# Altium integrated library ST Memory EPROM 1-16 Mbit.IntLib: 1093 symbols (part 14 of 19)
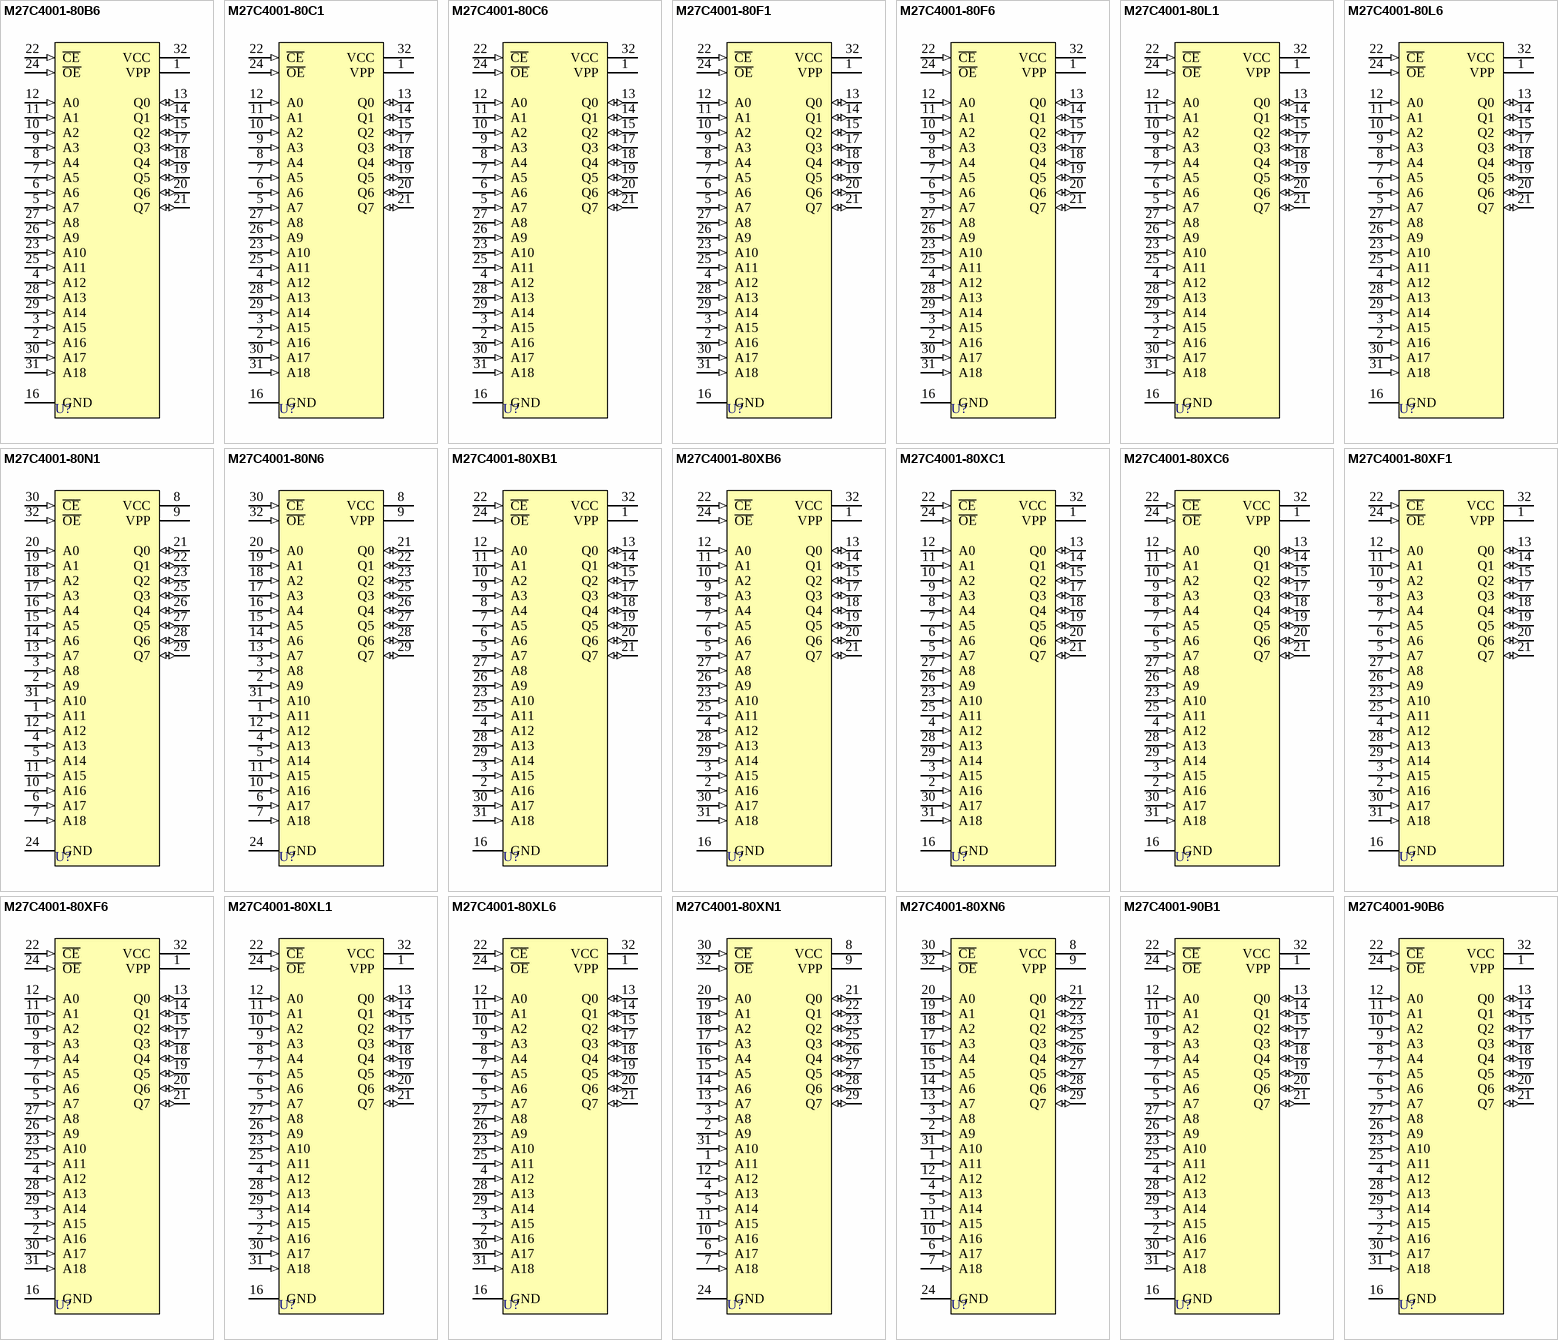
[diagram p70: symbols M27C4001-80B6 to M27C4001-90B6]

## M27C4001-80XF1
designator U?
4 Mbit (512Kb x 8) UV EPROM and OTP EPROM; Published: 24-Aug-2001; LatestRevisionDate: 17-Jul-2002; LatestRevisionNote: Re-released for DXP Platform.; DatasheetDocument: Jul-1998; PackageReference: FDIP32W; Publisher: Altium Limited
footprint FDIP32W (Ceramic Frit-seal DIP, Window; 32 Leads; Row Spacing 15.24 mm; Pitch 2.54 mm)
pins: 1 VPP (power), 2 A16 (in), 3 A15 (in), 4 A12 (in), 5 A7 (in), 6 A6 (in), 7 A5 (in), 8 A4 (in), 9 A3 (in), 10 A2 (in), 11 A1 (in), 12 A0 (in), 13 Q0 (io), 14 Q1 (io), 15 Q2 (io), 16 GND (power), 17 Q3 (io), 18 Q4 (io), 19 Q5 (io), 20 Q6 (io), 21 Q7 (io), 22 ~{CE} (in), 23 A10 (in), 24 ~{OE} (in), 25 A11 (in), 26 A9 (in), 27 A8 (in), 28 A13 (in), 29 A14 (in), 30 A17 (in), 31 A18 (in), 32 VCC (power)

## M27C4001-80XF6
designator U?
4 Mbit (512Kb x 8) UV EPROM and OTP EPROM; Published: 24-Aug-2001; LatestRevisionDate: 17-Jul-2002; LatestRevisionNote: Re-released for DXP Platform.; DatasheetDocument: Jul-1998; PackageReference: FDIP32W; Publisher: Altium Limited
footprint FDIP32W (Ceramic Frit-seal DIP, Window; 32 Leads; Row Spacing 15.24 mm; Pitch 2.54 mm)
pins: 1 VPP (power), 2 A16 (in), 3 A15 (in), 4 A12 (in), 5 A7 (in), 6 A6 (in), 7 A5 (in), 8 A4 (in), 9 A3 (in), 10 A2 (in), 11 A1 (in), 12 A0 (in), 13 Q0 (io), 14 Q1 (io), 15 Q2 (io), 16 GND (power), 17 Q3 (io), 18 Q4 (io), 19 Q5 (io), 20 Q6 (io), 21 Q7 (io), 22 ~{CE} (in), 23 A10 (in), 24 ~{OE} (in), 25 A11 (in), 26 A9 (in), 27 A8 (in), 28 A13 (in), 29 A14 (in), 30 A17 (in), 31 A18 (in), 32 VCC (power)

## M27C4001-80XL1
designator U?
4 Mbit (512Kb x 8) UV EPROM and OTP EPROM; Published: 24-Aug-2001; LatestRevisionDate: 17-Jul-2002; LatestRevisionNote: Re-released for DXP Platform.; DatasheetDocument: Jul-1998; PackageReference: LCCC32W; Publisher: Altium Limited
footprint LCCC32W (Leadless Chip Carrier, Ceramic, Window; 32 Terminals; Body 11.4 x 14 mm)
pins: 1 VPP (power), 2 A16 (in), 3 A15 (in), 4 A12 (in), 5 A7 (in), 6 A6 (in), 7 A5 (in), 8 A4 (in), 9 A3 (in), 10 A2 (in), 11 A1 (in), 12 A0 (in), 13 Q0 (io), 14 Q1 (io), 15 Q2 (io), 16 GND (power), 17 Q3 (io), 18 Q4 (io), 19 Q5 (io), 20 Q6 (io), 21 Q7 (io), 22 ~{CE} (in), 23 A10 (in), 24 ~{OE} (in), 25 A11 (in), 26 A9 (in), 27 A8 (in), 28 A13 (in), 29 A14 (in), 30 A17 (in), 31 A18 (in), 32 VCC (power)

## M27C4001-80XL6
designator U?
4 Mbit (512Kb x 8) UV EPROM and OTP EPROM; Published: 24-Aug-2001; LatestRevisionDate: 17-Jul-2002; LatestRevisionNote: Re-released for DXP Platform.; DatasheetDocument: Jul-1998; PackageReference: LCCC32W; Publisher: Altium Limited
footprint LCCC32W (Leadless Chip Carrier, Ceramic, Window; 32 Terminals; Body 11.4 x 14 mm)
pins: 1 VPP (power), 2 A16 (in), 3 A15 (in), 4 A12 (in), 5 A7 (in), 6 A6 (in), 7 A5 (in), 8 A4 (in), 9 A3 (in), 10 A2 (in), 11 A1 (in), 12 A0 (in), 13 Q0 (io), 14 Q1 (io), 15 Q2 (io), 16 GND (power), 17 Q3 (io), 18 Q4 (io), 19 Q5 (io), 20 Q6 (io), 21 Q7 (io), 22 ~{CE} (in), 23 A10 (in), 24 ~{OE} (in), 25 A11 (in), 26 A9 (in), 27 A8 (in), 28 A13 (in), 29 A14 (in), 30 A17 (in), 31 A18 (in), 32 VCC (power)

## M27C4001-80XN1
designator U?
4 Mbit (512Kb x 8) UV EPROM and OTP EPROM; Published: 24-Aug-2001; LatestRevisionDate: 26-May-2004; LatestRevisionNote: Pad length of PCB Footprint increased.; DatasheetDocument: Jul-1998; PackageDocument: Mar-1999; PackageReference: TSOP32; Publisher: Altium Limited; Code_JEDEC: MO-142-BD
footprint TSOP32 (Shrink Small Outline, Plastic, Thin; 32 Leads; Body Width 18.4 mm; Pitch 0.5 mm)
pins: 1 A11 (in), 2 A9 (in), 3 A8 (in), 4 A13 (in), 5 A14 (in), 6 A17 (in), 7 A18 (in), 8 VCC (power), 9 VPP (power), 10 A16 (in), 11 A15 (in), 12 A12 (in), 13 A7 (in), 14 A6 (in), 15 A5 (in), 16 A4 (in), 17 A3 (in), 18 A2 (in), 19 A1 (in), 20 A0 (in), 21 Q0 (io), 22 Q1 (io), 23 Q2 (io), 24 GND (power), 25 Q3 (io), 26 Q4 (io), 27 Q5 (io), 28 Q6 (io), 29 Q7 (io), 30 ~{CE} (in), 31 A10 (in), 32 ~{OE} (in)

## M27C4001-80XN6
designator U?
4 Mbit (512Kb x 8) UV EPROM and OTP EPROM; Published: 24-Aug-2001; LatestRevisionDate: 26-May-2004; LatestRevisionNote: Pad length of PCB Footprint increased.; DatasheetDocument: Jul-1998; PackageDocument: Mar-1999; PackageReference: TSOP32; Publisher: Altium Limited; Code_JEDEC: MO-142-BD
footprint TSOP32 (Shrink Small Outline, Plastic, Thin; 32 Leads; Body Width 18.4 mm; Pitch 0.5 mm)
pins: 1 A11 (in), 2 A9 (in), 3 A8 (in), 4 A13 (in), 5 A14 (in), 6 A17 (in), 7 A18 (in), 8 VCC (power), 9 VPP (power), 10 A16 (in), 11 A15 (in), 12 A12 (in), 13 A7 (in), 14 A6 (in), 15 A5 (in), 16 A4 (in), 17 A3 (in), 18 A2 (in), 19 A1 (in), 20 A0 (in), 21 Q0 (io), 22 Q1 (io), 23 Q2 (io), 24 GND (power), 25 Q3 (io), 26 Q4 (io), 27 Q5 (io), 28 Q6 (io), 29 Q7 (io), 30 ~{CE} (in), 31 A10 (in), 32 ~{OE} (in)

## M27C4001-90B1
designator U?
4 Mbit (512Kb x 8) UV EPROM and OTP EPROM; PackageDocument: 1998; Published: 24-Aug-2001; LatestRevisionDate: 17-Jul-2002; LatestRevisionNote: Re-released for DXP Platform.; DatasheetDocument: Jul-1998; PackageReference: PDIP32; Publisher: Altium Limited
footprint PDIP32 (DIP, Plastic; 32 Leads; Row Spacing 15.24 mm; Pitch 2.54 mm)
pins: 1 VPP (power), 2 A16 (in), 3 A15 (in), 4 A12 (in), 5 A7 (in), 6 A6 (in), 7 A5 (in), 8 A4 (in), 9 A3 (in), 10 A2 (in), 11 A1 (in), 12 A0 (in), 13 Q0 (io), 14 Q1 (io), 15 Q2 (io), 16 GND (power), 17 Q3 (io), 18 Q4 (io), 19 Q5 (io), 20 Q6 (io), 21 Q7 (io), 22 ~{CE} (in), 23 A10 (in), 24 ~{OE} (in), 25 A11 (in), 26 A9 (in), 27 A8 (in), 28 A13 (in), 29 A14 (in), 30 A17 (in), 31 A18 (in), 32 VCC (power)

## M27C4001-90B6
designator U?
4 Mbit (512Kb x 8) UV EPROM and OTP EPROM; PackageDocument: 1998; Published: 24-Aug-2001; LatestRevisionDate: 17-Jul-2002; LatestRevisionNote: Re-released for DXP Platform.; DatasheetDocument: Jul-1998; PackageReference: PDIP32; Publisher: Altium Limited
footprint PDIP32 (DIP, Plastic; 32 Leads; Row Spacing 15.24 mm; Pitch 2.54 mm)
pins: 1 VPP (power), 2 A16 (in), 3 A15 (in), 4 A12 (in), 5 A7 (in), 6 A6 (in), 7 A5 (in), 8 A4 (in), 9 A3 (in), 10 A2 (in), 11 A1 (in), 12 A0 (in), 13 Q0 (io), 14 Q1 (io), 15 Q2 (io), 16 GND (power), 17 Q3 (io), 18 Q4 (io), 19 Q5 (io), 20 Q6 (io), 21 Q7 (io), 22 ~{CE} (in), 23 A10 (in), 24 ~{OE} (in), 25 A11 (in), 26 A9 (in), 27 A8 (in), 28 A13 (in), 29 A14 (in), 30 A17 (in), 31 A18 (in), 32 VCC (power)

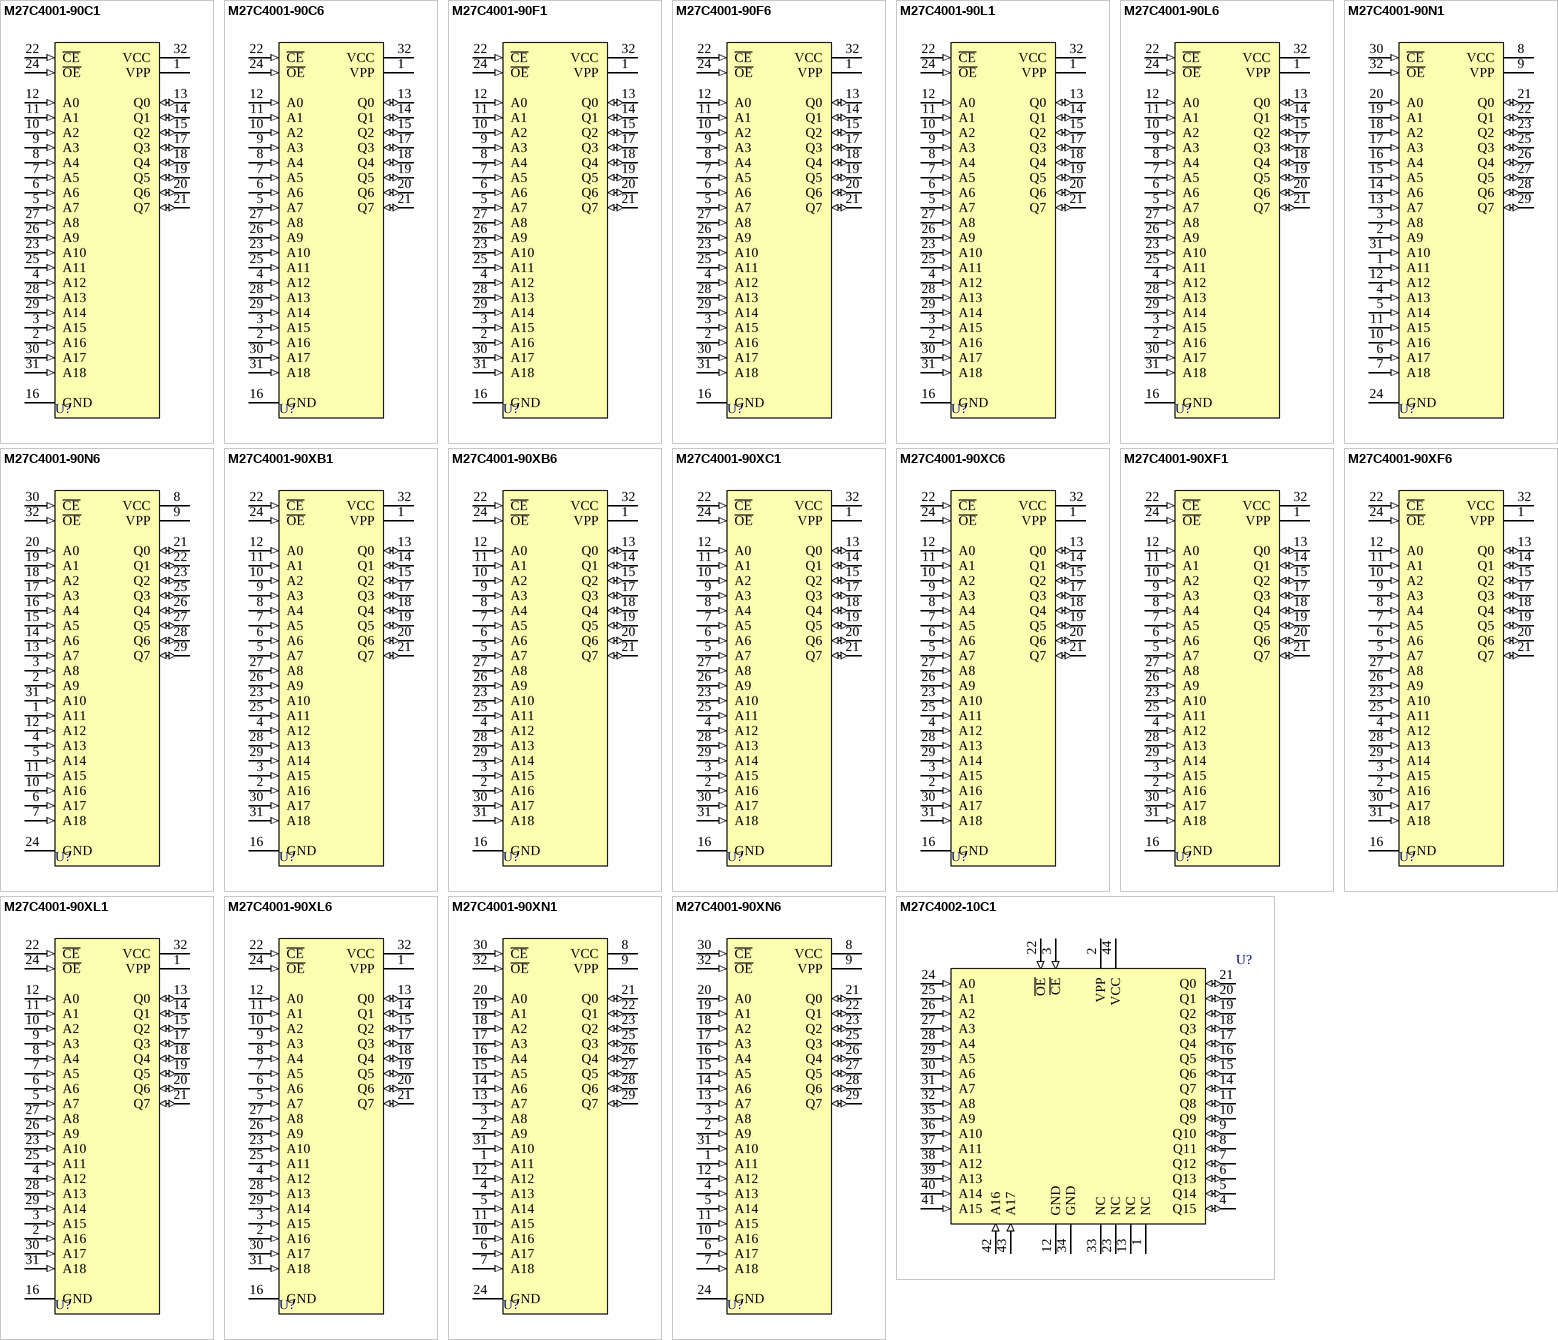
[diagram p40: symbols M27C4001-90C1 to M27C4002-10C1]

## M27C4001-90C1
designator U?
4 Mbit (512Kb x 8) UV EPROM and OTP EPROM; Published: 24-Aug-2001; LatestRevisionDate: 17-Jul-2002; LatestRevisionNote: Re-released for DXP Platform.; DatasheetDocument: Jul-1998; PackageDocument: Jun-1998; PackageReference: PLCC32; Publisher: Altium Limited; Code_JEDEC: MS-016-AE; Code_IPC: PLCC/R-32
footprint PLCC32 (Leaded Chip Carrier; 32 Leads; Body 11.4 x 14 mm)
pins: 1 VPP (power), 2 A16 (in), 3 A15 (in), 4 A12 (in), 5 A7 (in), 6 A6 (in), 7 A5 (in), 8 A4 (in), 9 A3 (in), 10 A2 (in), 11 A1 (in), 12 A0 (in), 13 Q0 (io), 14 Q1 (io), 15 Q2 (io), 16 GND (power), 17 Q3 (io), 18 Q4 (io), 19 Q5 (io), 20 Q6 (io), 21 Q7 (io), 22 ~{CE} (in), 23 A10 (in), 24 ~{OE} (in), 25 A11 (in), 26 A9 (in), 27 A8 (in), 28 A13 (in), 29 A14 (in), 30 A17 (in), 31 A18 (in), 32 VCC (power)

## M27C4001-90C6
designator U?
4 Mbit (512Kb x 8) UV EPROM and OTP EPROM; Published: 24-Aug-2001; LatestRevisionDate: 17-Jul-2002; LatestRevisionNote: Re-released for DXP Platform.; DatasheetDocument: Jul-1998; PackageDocument: Jun-1998; PackageReference: PLCC32; Publisher: Altium Limited; Code_JEDEC: MS-016-AE; Code_IPC: PLCC/R-32
footprint PLCC32 (Leaded Chip Carrier; 32 Leads; Body 11.4 x 14 mm)
pins: 1 VPP (power), 2 A16 (in), 3 A15 (in), 4 A12 (in), 5 A7 (in), 6 A6 (in), 7 A5 (in), 8 A4 (in), 9 A3 (in), 10 A2 (in), 11 A1 (in), 12 A0 (in), 13 Q0 (io), 14 Q1 (io), 15 Q2 (io), 16 GND (power), 17 Q3 (io), 18 Q4 (io), 19 Q5 (io), 20 Q6 (io), 21 Q7 (io), 22 ~{CE} (in), 23 A10 (in), 24 ~{OE} (in), 25 A11 (in), 26 A9 (in), 27 A8 (in), 28 A13 (in), 29 A14 (in), 30 A17 (in), 31 A18 (in), 32 VCC (power)

## M27C4001-90F1
designator U?
4 Mbit (512Kb x 8) UV EPROM and OTP EPROM; Published: 24-Aug-2001; LatestRevisionDate: 17-Jul-2002; LatestRevisionNote: Re-released for DXP Platform.; DatasheetDocument: Jul-1998; PackageReference: FDIP32W; Publisher: Altium Limited
footprint FDIP32W (Ceramic Frit-seal DIP, Window; 32 Leads; Row Spacing 15.24 mm; Pitch 2.54 mm)
pins: 1 VPP (power), 2 A16 (in), 3 A15 (in), 4 A12 (in), 5 A7 (in), 6 A6 (in), 7 A5 (in), 8 A4 (in), 9 A3 (in), 10 A2 (in), 11 A1 (in), 12 A0 (in), 13 Q0 (io), 14 Q1 (io), 15 Q2 (io), 16 GND (power), 17 Q3 (io), 18 Q4 (io), 19 Q5 (io), 20 Q6 (io), 21 Q7 (io), 22 ~{CE} (in), 23 A10 (in), 24 ~{OE} (in), 25 A11 (in), 26 A9 (in), 27 A8 (in), 28 A13 (in), 29 A14 (in), 30 A17 (in), 31 A18 (in), 32 VCC (power)

## M27C4001-90F6
designator U?
4 Mbit (512Kb x 8) UV EPROM and OTP EPROM; Published: 24-Aug-2001; LatestRevisionDate: 17-Jul-2002; LatestRevisionNote: Re-released for DXP Platform.; DatasheetDocument: Jul-1998; PackageReference: FDIP32W; Publisher: Altium Limited
footprint FDIP32W (Ceramic Frit-seal DIP, Window; 32 Leads; Row Spacing 15.24 mm; Pitch 2.54 mm)
pins: 1 VPP (power), 2 A16 (in), 3 A15 (in), 4 A12 (in), 5 A7 (in), 6 A6 (in), 7 A5 (in), 8 A4 (in), 9 A3 (in), 10 A2 (in), 11 A1 (in), 12 A0 (in), 13 Q0 (io), 14 Q1 (io), 15 Q2 (io), 16 GND (power), 17 Q3 (io), 18 Q4 (io), 19 Q5 (io), 20 Q6 (io), 21 Q7 (io), 22 ~{CE} (in), 23 A10 (in), 24 ~{OE} (in), 25 A11 (in), 26 A9 (in), 27 A8 (in), 28 A13 (in), 29 A14 (in), 30 A17 (in), 31 A18 (in), 32 VCC (power)

## M27C4001-90L1
designator U?
4 Mbit (512Kb x 8) UV EPROM and OTP EPROM; Published: 24-Aug-2001; LatestRevisionDate: 17-Jul-2002; LatestRevisionNote: Re-released for DXP Platform.; DatasheetDocument: Jul-1998; PackageReference: LCCC32W; Publisher: Altium Limited
footprint LCCC32W (Leadless Chip Carrier, Ceramic, Window; 32 Terminals; Body 11.4 x 14 mm)
pins: 1 VPP (power), 2 A16 (in), 3 A15 (in), 4 A12 (in), 5 A7 (in), 6 A6 (in), 7 A5 (in), 8 A4 (in), 9 A3 (in), 10 A2 (in), 11 A1 (in), 12 A0 (in), 13 Q0 (io), 14 Q1 (io), 15 Q2 (io), 16 GND (power), 17 Q3 (io), 18 Q4 (io), 19 Q5 (io), 20 Q6 (io), 21 Q7 (io), 22 ~{CE} (in), 23 A10 (in), 24 ~{OE} (in), 25 A11 (in), 26 A9 (in), 27 A8 (in), 28 A13 (in), 29 A14 (in), 30 A17 (in), 31 A18 (in), 32 VCC (power)

## M27C4001-90L6
designator U?
4 Mbit (512Kb x 8) UV EPROM and OTP EPROM; Published: 24-Aug-2001; LatestRevisionDate: 17-Jul-2002; LatestRevisionNote: Re-released for DXP Platform.; DatasheetDocument: Jul-1998; PackageReference: LCCC32W; Publisher: Altium Limited
footprint LCCC32W (Leadless Chip Carrier, Ceramic, Window; 32 Terminals; Body 11.4 x 14 mm)
pins: 1 VPP (power), 2 A16 (in), 3 A15 (in), 4 A12 (in), 5 A7 (in), 6 A6 (in), 7 A5 (in), 8 A4 (in), 9 A3 (in), 10 A2 (in), 11 A1 (in), 12 A0 (in), 13 Q0 (io), 14 Q1 (io), 15 Q2 (io), 16 GND (power), 17 Q3 (io), 18 Q4 (io), 19 Q5 (io), 20 Q6 (io), 21 Q7 (io), 22 ~{CE} (in), 23 A10 (in), 24 ~{OE} (in), 25 A11 (in), 26 A9 (in), 27 A8 (in), 28 A13 (in), 29 A14 (in), 30 A17 (in), 31 A18 (in), 32 VCC (power)

## M27C4001-90N1
designator U?
4 Mbit (512Kb x 8) UV EPROM and OTP EPROM; Published: 24-Aug-2001; LatestRevisionDate: 26-May-2004; LatestRevisionNote: Pad length of PCB Footprint increased.; DatasheetDocument: Jul-1998; PackageDocument: Mar-1999; PackageReference: TSOP32; Publisher: Altium Limited; Code_JEDEC: MO-142-BD
footprint TSOP32 (Shrink Small Outline, Plastic, Thin; 32 Leads; Body Width 18.4 mm; Pitch 0.5 mm)
pins: 1 A11 (in), 2 A9 (in), 3 A8 (in), 4 A13 (in), 5 A14 (in), 6 A17 (in), 7 A18 (in), 8 VCC (power), 9 VPP (power), 10 A16 (in), 11 A15 (in), 12 A12 (in), 13 A7 (in), 14 A6 (in), 15 A5 (in), 16 A4 (in), 17 A3 (in), 18 A2 (in), 19 A1 (in), 20 A0 (in), 21 Q0 (io), 22 Q1 (io), 23 Q2 (io), 24 GND (power), 25 Q3 (io), 26 Q4 (io), 27 Q5 (io), 28 Q6 (io), 29 Q7 (io), 30 ~{CE} (in), 31 A10 (in), 32 ~{OE} (in)

## M27C4001-90N6
designator U?
4 Mbit (512Kb x 8) UV EPROM and OTP EPROM; Published: 24-Aug-2001; LatestRevisionDate: 26-May-2004; LatestRevisionNote: Pad length of PCB Footprint increased.; DatasheetDocument: Jul-1998; PackageDocument: Mar-1999; PackageReference: TSOP32; Publisher: Altium Limited; Code_JEDEC: MO-142-BD
footprint TSOP32 (Shrink Small Outline, Plastic, Thin; 32 Leads; Body Width 18.4 mm; Pitch 0.5 mm)
pins: 1 A11 (in), 2 A9 (in), 3 A8 (in), 4 A13 (in), 5 A14 (in), 6 A17 (in), 7 A18 (in), 8 VCC (power), 9 VPP (power), 10 A16 (in), 11 A15 (in), 12 A12 (in), 13 A7 (in), 14 A6 (in), 15 A5 (in), 16 A4 (in), 17 A3 (in), 18 A2 (in), 19 A1 (in), 20 A0 (in), 21 Q0 (io), 22 Q1 (io), 23 Q2 (io), 24 GND (power), 25 Q3 (io), 26 Q4 (io), 27 Q5 (io), 28 Q6 (io), 29 Q7 (io), 30 ~{CE} (in), 31 A10 (in), 32 ~{OE} (in)

## M27C4001-90XB1
designator U?
4 Mbit (512Kb x 8) UV EPROM and OTP EPROM; PackageDocument: 1998; Published: 24-Aug-2001; LatestRevisionDate: 17-Jul-2002; LatestRevisionNote: Re-released for DXP Platform.; DatasheetDocument: Jul-1998; PackageReference: PDIP32; Publisher: Altium Limited
footprint PDIP32 (DIP, Plastic; 32 Leads; Row Spacing 15.24 mm; Pitch 2.54 mm)
pins: 1 VPP (power), 2 A16 (in), 3 A15 (in), 4 A12 (in), 5 A7 (in), 6 A6 (in), 7 A5 (in), 8 A4 (in), 9 A3 (in), 10 A2 (in), 11 A1 (in), 12 A0 (in), 13 Q0 (io), 14 Q1 (io), 15 Q2 (io), 16 GND (power), 17 Q3 (io), 18 Q4 (io), 19 Q5 (io), 20 Q6 (io), 21 Q7 (io), 22 ~{CE} (in), 23 A10 (in), 24 ~{OE} (in), 25 A11 (in), 26 A9 (in), 27 A8 (in), 28 A13 (in), 29 A14 (in), 30 A17 (in), 31 A18 (in), 32 VCC (power)

## M27C4001-90XB6
designator U?
4 Mbit (512Kb x 8) UV EPROM and OTP EPROM; PackageDocument: 1998; Published: 24-Aug-2001; LatestRevisionDate: 17-Jul-2002; LatestRevisionNote: Re-released for DXP Platform.; DatasheetDocument: Jul-1998; PackageReference: PDIP32; Publisher: Altium Limited
footprint PDIP32 (DIP, Plastic; 32 Leads; Row Spacing 15.24 mm; Pitch 2.54 mm)
pins: 1 VPP (power), 2 A16 (in), 3 A15 (in), 4 A12 (in), 5 A7 (in), 6 A6 (in), 7 A5 (in), 8 A4 (in), 9 A3 (in), 10 A2 (in), 11 A1 (in), 12 A0 (in), 13 Q0 (io), 14 Q1 (io), 15 Q2 (io), 16 GND (power), 17 Q3 (io), 18 Q4 (io), 19 Q5 (io), 20 Q6 (io), 21 Q7 (io), 22 ~{CE} (in), 23 A10 (in), 24 ~{OE} (in), 25 A11 (in), 26 A9 (in), 27 A8 (in), 28 A13 (in), 29 A14 (in), 30 A17 (in), 31 A18 (in), 32 VCC (power)

## M27C4001-90XC1
designator U?
4 Mbit (512Kb x 8) UV EPROM and OTP EPROM; Published: 24-Aug-2001; LatestRevisionDate: 17-Jul-2002; LatestRevisionNote: Re-released for DXP Platform.; DatasheetDocument: Jul-1998; PackageDocument: Jun-1998; PackageReference: PLCC32; Publisher: Altium Limited; Code_JEDEC: MS-016-AE; Code_IPC: PLCC/R-32
footprint PLCC32 (Leaded Chip Carrier; 32 Leads; Body 11.4 x 14 mm)
pins: 1 VPP (power), 2 A16 (in), 3 A15 (in), 4 A12 (in), 5 A7 (in), 6 A6 (in), 7 A5 (in), 8 A4 (in), 9 A3 (in), 10 A2 (in), 11 A1 (in), 12 A0 (in), 13 Q0 (io), 14 Q1 (io), 15 Q2 (io), 16 GND (power), 17 Q3 (io), 18 Q4 (io), 19 Q5 (io), 20 Q6 (io), 21 Q7 (io), 22 ~{CE} (in), 23 A10 (in), 24 ~{OE} (in), 25 A11 (in), 26 A9 (in), 27 A8 (in), 28 A13 (in), 29 A14 (in), 30 A17 (in), 31 A18 (in), 32 VCC (power)

## M27C4001-90XC6
designator U?
4 Mbit (512Kb x 8) UV EPROM and OTP EPROM; Published: 24-Aug-2001; LatestRevisionDate: 17-Jul-2002; LatestRevisionNote: Re-released for DXP Platform.; DatasheetDocument: Jul-1998; PackageDocument: Jun-1998; PackageReference: PLCC32; Publisher: Altium Limited; Code_JEDEC: MS-016-AE; Code_IPC: PLCC/R-32
footprint PLCC32 (Leaded Chip Carrier; 32 Leads; Body 11.4 x 14 mm)
pins: 1 VPP (power), 2 A16 (in), 3 A15 (in), 4 A12 (in), 5 A7 (in), 6 A6 (in), 7 A5 (in), 8 A4 (in), 9 A3 (in), 10 A2 (in), 11 A1 (in), 12 A0 (in), 13 Q0 (io), 14 Q1 (io), 15 Q2 (io), 16 GND (power), 17 Q3 (io), 18 Q4 (io), 19 Q5 (io), 20 Q6 (io), 21 Q7 (io), 22 ~{CE} (in), 23 A10 (in), 24 ~{OE} (in), 25 A11 (in), 26 A9 (in), 27 A8 (in), 28 A13 (in), 29 A14 (in), 30 A17 (in), 31 A18 (in), 32 VCC (power)

## M27C4001-90XF1
designator U?
4 Mbit (512Kb x 8) UV EPROM and OTP EPROM; Published: 24-Aug-2001; LatestRevisionDate: 17-Jul-2002; LatestRevisionNote: Re-released for DXP Platform.; DatasheetDocument: Jul-1998; PackageReference: FDIP32W; Publisher: Altium Limited
footprint FDIP32W (Ceramic Frit-seal DIP, Window; 32 Leads; Row Spacing 15.24 mm; Pitch 2.54 mm)
pins: 1 VPP (power), 2 A16 (in), 3 A15 (in), 4 A12 (in), 5 A7 (in), 6 A6 (in), 7 A5 (in), 8 A4 (in), 9 A3 (in), 10 A2 (in), 11 A1 (in), 12 A0 (in), 13 Q0 (io), 14 Q1 (io), 15 Q2 (io), 16 GND (power), 17 Q3 (io), 18 Q4 (io), 19 Q5 (io), 20 Q6 (io), 21 Q7 (io), 22 ~{CE} (in), 23 A10 (in), 24 ~{OE} (in), 25 A11 (in), 26 A9 (in), 27 A8 (in), 28 A13 (in), 29 A14 (in), 30 A17 (in), 31 A18 (in), 32 VCC (power)

## M27C4001-90XF6
designator U?
4 Mbit (512Kb x 8) UV EPROM and OTP EPROM; Published: 24-Aug-2001; LatestRevisionDate: 17-Jul-2002; LatestRevisionNote: Re-released for DXP Platform.; DatasheetDocument: Jul-1998; PackageReference: FDIP32W; Publisher: Altium Limited
footprint FDIP32W (Ceramic Frit-seal DIP, Window; 32 Leads; Row Spacing 15.24 mm; Pitch 2.54 mm)
pins: 1 VPP (power), 2 A16 (in), 3 A15 (in), 4 A12 (in), 5 A7 (in), 6 A6 (in), 7 A5 (in), 8 A4 (in), 9 A3 (in), 10 A2 (in), 11 A1 (in), 12 A0 (in), 13 Q0 (io), 14 Q1 (io), 15 Q2 (io), 16 GND (power), 17 Q3 (io), 18 Q4 (io), 19 Q5 (io), 20 Q6 (io), 21 Q7 (io), 22 ~{CE} (in), 23 A10 (in), 24 ~{OE} (in), 25 A11 (in), 26 A9 (in), 27 A8 (in), 28 A13 (in), 29 A14 (in), 30 A17 (in), 31 A18 (in), 32 VCC (power)

## M27C4001-90XL1
designator U?
4 Mbit (512Kb x 8) UV EPROM and OTP EPROM; Published: 24-Aug-2001; LatestRevisionDate: 17-Jul-2002; LatestRevisionNote: Re-released for DXP Platform.; DatasheetDocument: Jul-1998; PackageReference: LCCC32W; Publisher: Altium Limited
footprint LCCC32W (Leadless Chip Carrier, Ceramic, Window; 32 Terminals; Body 11.4 x 14 mm)
pins: 1 VPP (power), 2 A16 (in), 3 A15 (in), 4 A12 (in), 5 A7 (in), 6 A6 (in), 7 A5 (in), 8 A4 (in), 9 A3 (in), 10 A2 (in), 11 A1 (in), 12 A0 (in), 13 Q0 (io), 14 Q1 (io), 15 Q2 (io), 16 GND (power), 17 Q3 (io), 18 Q4 (io), 19 Q5 (io), 20 Q6 (io), 21 Q7 (io), 22 ~{CE} (in), 23 A10 (in), 24 ~{OE} (in), 25 A11 (in), 26 A9 (in), 27 A8 (in), 28 A13 (in), 29 A14 (in), 30 A17 (in), 31 A18 (in), 32 VCC (power)

## M27C4001-90XL6
designator U?
4 Mbit (512Kb x 8) UV EPROM and OTP EPROM; Published: 24-Aug-2001; LatestRevisionDate: 17-Jul-2002; LatestRevisionNote: Re-released for DXP Platform.; DatasheetDocument: Jul-1998; PackageReference: LCCC32W; Publisher: Altium Limited
footprint LCCC32W (Leadless Chip Carrier, Ceramic, Window; 32 Terminals; Body 11.4 x 14 mm)
pins: 1 VPP (power), 2 A16 (in), 3 A15 (in), 4 A12 (in), 5 A7 (in), 6 A6 (in), 7 A5 (in), 8 A4 (in), 9 A3 (in), 10 A2 (in), 11 A1 (in), 12 A0 (in), 13 Q0 (io), 14 Q1 (io), 15 Q2 (io), 16 GND (power), 17 Q3 (io), 18 Q4 (io), 19 Q5 (io), 20 Q6 (io), 21 Q7 (io), 22 ~{CE} (in), 23 A10 (in), 24 ~{OE} (in), 25 A11 (in), 26 A9 (in), 27 A8 (in), 28 A13 (in), 29 A14 (in), 30 A17 (in), 31 A18 (in), 32 VCC (power)

## M27C4001-90XN1
designator U?
4 Mbit (512Kb x 8) UV EPROM and OTP EPROM; Published: 24-Aug-2001; LatestRevisionDate: 26-May-2004; LatestRevisionNote: Pad length of PCB Footprint increased.; DatasheetDocument: Jul-1998; PackageDocument: Mar-1999; PackageReference: TSOP32; Publisher: Altium Limited; Code_JEDEC: MO-142-BD
footprint TSOP32 (Shrink Small Outline, Plastic, Thin; 32 Leads; Body Width 18.4 mm; Pitch 0.5 mm)
pins: 1 A11 (in), 2 A9 (in), 3 A8 (in), 4 A13 (in), 5 A14 (in), 6 A17 (in), 7 A18 (in), 8 VCC (power), 9 VPP (power), 10 A16 (in), 11 A15 (in), 12 A12 (in), 13 A7 (in), 14 A6 (in), 15 A5 (in), 16 A4 (in), 17 A3 (in), 18 A2 (in), 19 A1 (in), 20 A0 (in), 21 Q0 (io), 22 Q1 (io), 23 Q2 (io), 24 GND (power), 25 Q3 (io), 26 Q4 (io), 27 Q5 (io), 28 Q6 (io), 29 Q7 (io), 30 ~{CE} (in), 31 A10 (in), 32 ~{OE} (in)

## M27C4001-90XN6
designator U?
4 Mbit (512Kb x 8) UV EPROM and OTP EPROM; Published: 24-Aug-2001; LatestRevisionDate: 26-May-2004; LatestRevisionNote: Pad length of PCB Footprint increased.; DatasheetDocument: Jul-1998; PackageDocument: Mar-1999; PackageReference: TSOP32; Publisher: Altium Limited; Code_JEDEC: MO-142-BD
footprint TSOP32 (Shrink Small Outline, Plastic, Thin; 32 Leads; Body Width 18.4 mm; Pitch 0.5 mm)
pins: 1 A11 (in), 2 A9 (in), 3 A8 (in), 4 A13 (in), 5 A14 (in), 6 A17 (in), 7 A18 (in), 8 VCC (power), 9 VPP (power), 10 A16 (in), 11 A15 (in), 12 A12 (in), 13 A7 (in), 14 A6 (in), 15 A5 (in), 16 A4 (in), 17 A3 (in), 18 A2 (in), 19 A1 (in), 20 A0 (in), 21 Q0 (io), 22 Q1 (io), 23 Q2 (io), 24 GND (power), 25 Q3 (io), 26 Q4 (io), 27 Q5 (io), 28 Q6 (io), 29 Q7 (io), 30 ~{CE} (in), 31 A10 (in), 32 ~{OE} (in)

## M27C4002-10C1
designator U?
4 Mbit (256Kb x 16) UV EPROM and OTP EPROM; Published: 24-Aug-2001; LatestRevisionDate: 17-Jul-2002; LatestRevisionNote: Re-released for DXP Platform.; DatasheetDocument: Sep-1998; PackageDocument: Jun-1998; PackageReference: PLCC44; Publisher: Altium Limited; Code_IPC: PLCC-44
footprint PLCC44 (Leaded Chip Carrier; 44 Leads; Body 16.5 x 16.5 mm)
pins: 1 NC, 2 VPP (power), 3 ~{CE} (in), 4 Q15 (io), 5 Q14 (io), 6 Q13 (io), 7 Q12 (io), 8 Q11 (io), 9 Q10 (io), 10 Q9 (io), 11 Q8 (io), 12 GND (power), 13 NC, 14 Q7 (io), 15 Q6 (io), 16 Q5 (io), 17 Q4 (io), 18 Q3 (io), 19 Q2 (io), 20 Q1 (io), 21 Q0 (io), 22 ~{OE} (in), 23 NC, 24 A0 (in), 25 A1 (in), 26 A2 (in), 27 A3 (in), 28 A4 (in), 29 A5 (in), 30 A6 (in), 31 A7 (in), 32 A8 (in), 33 NC, 34 GND (power), 35 A9 (in), 36 A10 (in), 37 A11 (in), 38 A12 (in), 39 A13 (in), 40 A14 (in), 41 A15 (in), 42 A16 (in), 43 A17 (in), 44 VCC (power)

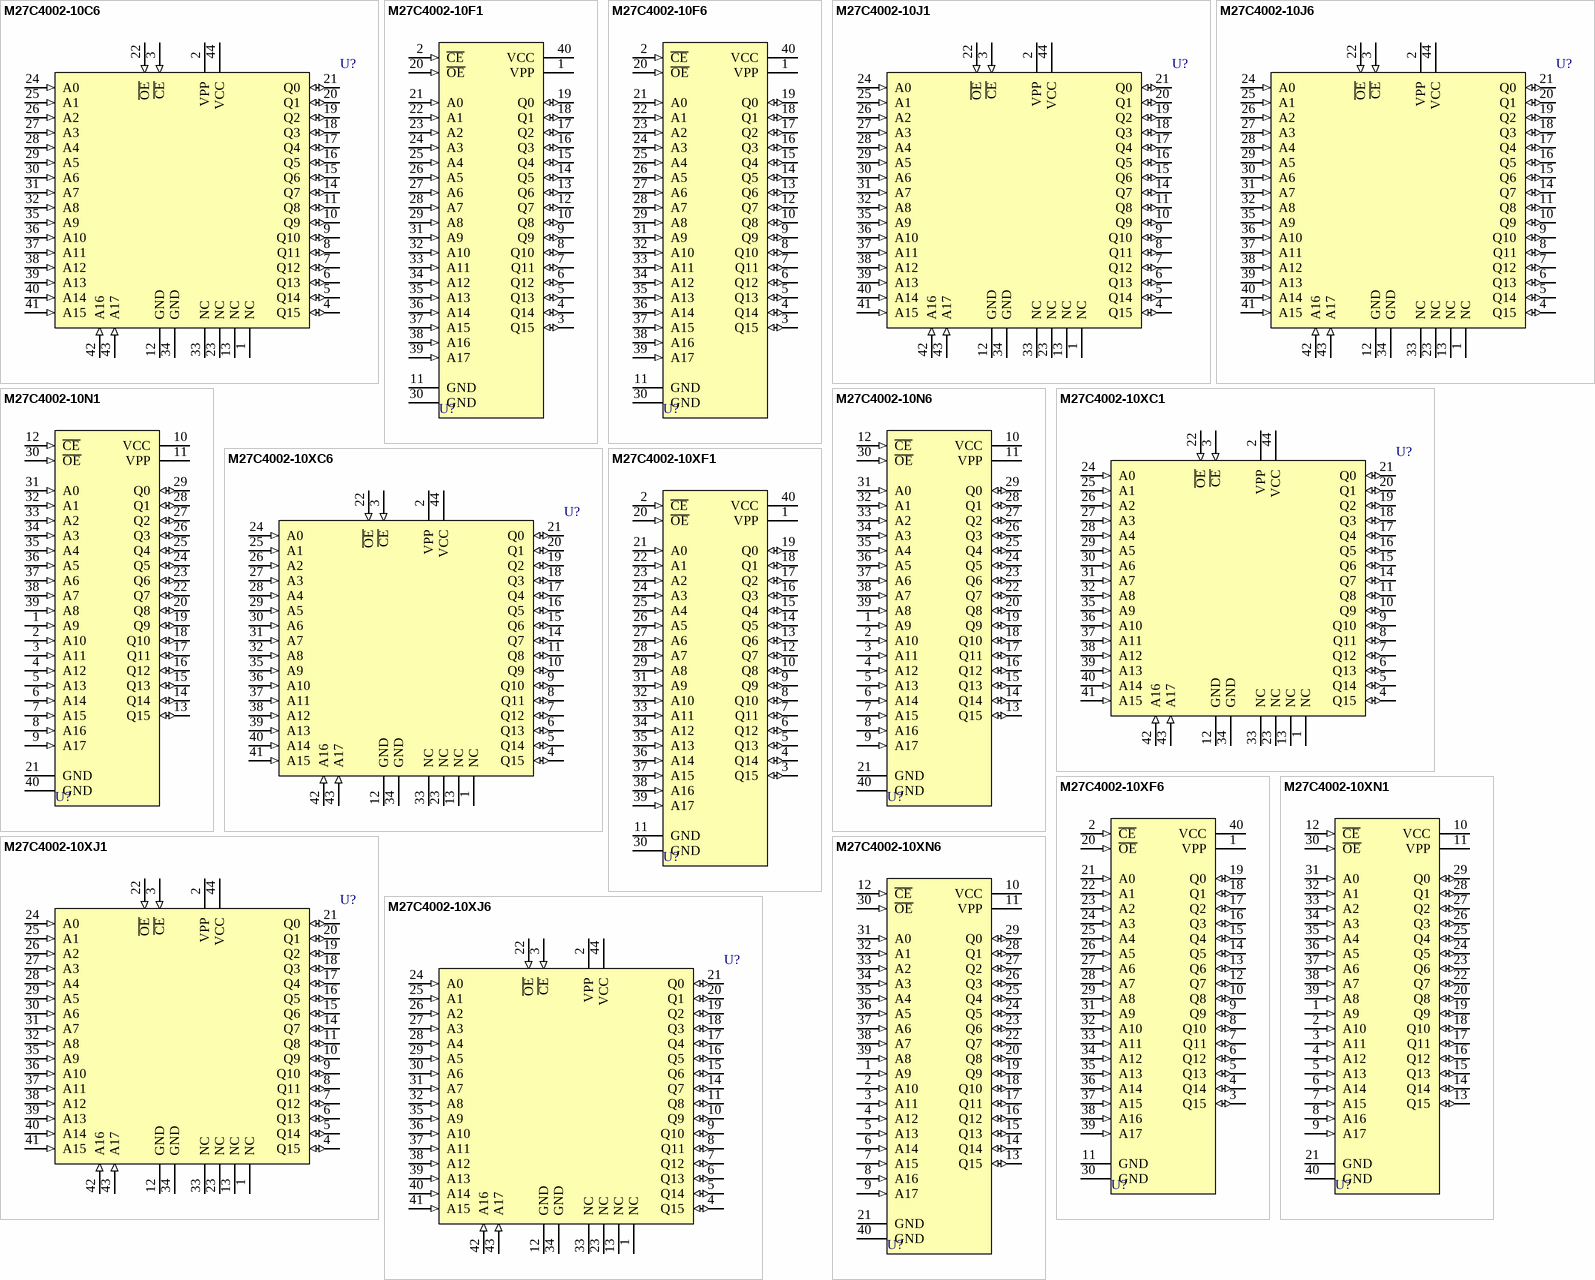
[diagram p41: symbols M27C4002-10C6 to M27C4002-10XN6]

## M27C4002-10C6
designator U?
4 Mbit (256Kb x 16) UV EPROM and OTP EPROM; Published: 24-Aug-2001; LatestRevisionDate: 17-Jul-2002; LatestRevisionNote: Re-released for DXP Platform.; DatasheetDocument: Sep-1998; PackageDocument: Jun-1998; PackageReference: PLCC44; Publisher: Altium Limited; Code_IPC: PLCC-44
footprint PLCC44 (Leaded Chip Carrier; 44 Leads; Body 16.5 x 16.5 mm)
pins: 1 NC, 2 VPP (power), 3 ~{CE} (in), 4 Q15 (io), 5 Q14 (io), 6 Q13 (io), 7 Q12 (io), 8 Q11 (io), 9 Q10 (io), 10 Q9 (io), 11 Q8 (io), 12 GND (power), 13 NC, 14 Q7 (io), 15 Q6 (io), 16 Q5 (io), 17 Q4 (io), 18 Q3 (io), 19 Q2 (io), 20 Q1 (io), 21 Q0 (io), 22 ~{OE} (in), 23 NC, 24 A0 (in), 25 A1 (in), 26 A2 (in), 27 A3 (in), 28 A4 (in), 29 A5 (in), 30 A6 (in), 31 A7 (in), 32 A8 (in), 33 NC, 34 GND (power), 35 A9 (in), 36 A10 (in), 37 A11 (in), 38 A12 (in), 39 A13 (in), 40 A14 (in), 41 A15 (in), 42 A16 (in), 43 A17 (in), 44 VCC (power)

## M27C4002-10F1
designator U?
4 Mbit (256Kb x 16) UV EPROM and OTP EPROM; Published: 24-Aug-2001; LatestRevisionDate: 17-Jul-2002; LatestRevisionNote: Re-released for DXP Platform.; DatasheetDocument: Sep-1998; PackageReference: FDIP40W; Publisher: Altium Limited
footprint FDIP40W (Ceramic Frit-seal DIP, Window; 40 Leads; Row Spacing 15.24 mm; Pitch 2.54 mm)
pins: 1 VPP (power), 2 ~{CE} (in), 3 Q15 (io), 4 Q14 (io), 5 Q13 (io), 6 Q12 (io), 7 Q11 (io), 8 Q10 (io), 9 Q9 (io), 10 Q8 (io), 11 GND (power), 12 Q7 (io), 13 Q6 (io), 14 Q5 (io), 15 Q4 (io), 16 Q3 (io), 17 Q2 (io), 18 Q1 (io), 19 Q0 (io), 20 ~{OE} (in), 21 A0 (in), 22 A1 (in), 23 A2 (in), 24 A3 (in), 25 A4 (in), 26 A5 (in), 27 A6 (in), 28 A7 (in), 29 A8 (in), 30 GND (power), 31 A9 (in), 32 A10 (in), 33 A11 (in), 34 A12 (in), 35 A13 (in), 36 A14 (in), 37 A15 (in), 38 A16 (in), 39 A17 (in), 40 VCC (power)

## M27C4002-10F6
designator U?
4 Mbit (256Kb x 16) UV EPROM and OTP EPROM; Published: 24-Aug-2001; LatestRevisionDate: 17-Jul-2002; LatestRevisionNote: Re-released for DXP Platform.; DatasheetDocument: Sep-1998; PackageReference: FDIP40W; Publisher: Altium Limited
footprint FDIP40W (Ceramic Frit-seal DIP, Window; 40 Leads; Row Spacing 15.24 mm; Pitch 2.54 mm)
pins: 1 VPP (power), 2 ~{CE} (in), 3 Q15 (io), 4 Q14 (io), 5 Q13 (io), 6 Q12 (io), 7 Q11 (io), 8 Q10 (io), 9 Q9 (io), 10 Q8 (io), 11 GND (power), 12 Q7 (io), 13 Q6 (io), 14 Q5 (io), 15 Q4 (io), 16 Q3 (io), 17 Q2 (io), 18 Q1 (io), 19 Q0 (io), 20 ~{OE} (in), 21 A0 (in), 22 A1 (in), 23 A2 (in), 24 A3 (in), 25 A4 (in), 26 A5 (in), 27 A6 (in), 28 A7 (in), 29 A8 (in), 30 GND (power), 31 A9 (in), 32 A10 (in), 33 A11 (in), 34 A12 (in), 35 A13 (in), 36 A14 (in), 37 A15 (in), 38 A16 (in), 39 A17 (in), 40 VCC (power)

## M27C4002-10J1
designator U?
4 Mbit (256Kb x 16) UV EPROM and OTP EPROM; Published: 24-Aug-2001; LatestRevisionDate: 17-Jul-2002; LatestRevisionNote: Re-released for DXP Platform.; DatasheetDocument: Sep-1998; PackageReference: JLCC44W; Publisher: Altium Limited; Code_IPC: PLCC-44
footprint JLCC44W (Leaded Chip Carrier; 44 Leads; Body 16.5 x 16.5 mm)
pins: 1 NC, 2 VPP (power), 3 ~{CE} (in), 4 Q15 (io), 5 Q14 (io), 6 Q13 (io), 7 Q12 (io), 8 Q11 (io), 9 Q10 (io), 10 Q9 (io), 11 Q8 (io), 12 GND (power), 13 NC, 14 Q7 (io), 15 Q6 (io), 16 Q5 (io), 17 Q4 (io), 18 Q3 (io), 19 Q2 (io), 20 Q1 (io), 21 Q0 (io), 22 ~{OE} (in), 23 NC, 24 A0 (in), 25 A1 (in), 26 A2 (in), 27 A3 (in), 28 A4 (in), 29 A5 (in), 30 A6 (in), 31 A7 (in), 32 A8 (in), 33 NC, 34 GND (power), 35 A9 (in), 36 A10 (in), 37 A11 (in), 38 A12 (in), 39 A13 (in), 40 A14 (in), 41 A15 (in), 42 A16 (in), 43 A17 (in), 44 VCC (power)

## M27C4002-10J6
designator U?
4 Mbit (256Kb x 16) UV EPROM and OTP EPROM; Published: 24-Aug-2001; LatestRevisionDate: 17-Jul-2002; LatestRevisionNote: Re-released for DXP Platform.; DatasheetDocument: Sep-1998; PackageReference: JLCC44W; Publisher: Altium Limited; Code_IPC: PLCC-44
footprint JLCC44W (Leaded Chip Carrier; 44 Leads; Body 16.5 x 16.5 mm)
pins: 1 NC, 2 VPP (power), 3 ~{CE} (in), 4 Q15 (io), 5 Q14 (io), 6 Q13 (io), 7 Q12 (io), 8 Q11 (io), 9 Q10 (io), 10 Q9 (io), 11 Q8 (io), 12 GND (power), 13 NC, 14 Q7 (io), 15 Q6 (io), 16 Q5 (io), 17 Q4 (io), 18 Q3 (io), 19 Q2 (io), 20 Q1 (io), 21 Q0 (io), 22 ~{OE} (in), 23 NC, 24 A0 (in), 25 A1 (in), 26 A2 (in), 27 A3 (in), 28 A4 (in), 29 A5 (in), 30 A6 (in), 31 A7 (in), 32 A8 (in), 33 NC, 34 GND (power), 35 A9 (in), 36 A10 (in), 37 A11 (in), 38 A12 (in), 39 A13 (in), 40 A14 (in), 41 A15 (in), 42 A16 (in), 43 A17 (in), 44 VCC (power)

## M27C4002-10N1
designator U?
4 Mbit (256Kb x 16) UV EPROM and OTP EPROM; Published: 24-Aug-2001; LatestRevisionDate: 17-Jul-2002; LatestRevisionNote: Re-released for DXP Platform.; DatasheetDocument: Sep-1998; PackageDocument: Jul-1998; PackageReference: TSOP40A; Publisher: Altium Limited; Code_JEDEC: MO-142-CD
footprint TSOP40A (Shrink Small Outline, Plastic, Thin; 40 Leads; Body Width 18.4 mm; Pitch 0.5 mm)
pins: 1 A9 (in), 2 A10 (in), 3 A11 (in), 4 A12 (in), 5 A13 (in), 6 A14 (in), 7 A15 (in), 8 A16 (in), 9 A17 (in), 10 VCC (power), 11 VPP (power), 12 ~{CE} (in), 13 Q15 (io), 14 Q14 (io), 15 Q13 (io), 16 Q12 (io), 17 Q11 (io), 18 Q10 (io), 19 Q9 (io), 20 Q8 (io), 21 GND (power), 22 Q7 (io), 23 Q6 (io), 24 Q5 (io), 25 Q4 (io), 26 Q3 (io), 27 Q2 (io), 28 Q1 (io), 29 Q0 (io), 30 ~{OE} (in), 31 A0 (in), 32 A1 (in), 33 A2 (in), 34 A3 (in), 35 A4 (in), 36 A5 (in), 37 A6 (in), 38 A7 (in), 39 A8 (in), 40 GND (power)

## M27C4002-10N6
designator U?
4 Mbit (256Kb x 16) UV EPROM and OTP EPROM; Published: 24-Aug-2001; LatestRevisionDate: 17-Jul-2002; LatestRevisionNote: Re-released for DXP Platform.; DatasheetDocument: Sep-1998; PackageDocument: Jul-1998; PackageReference: TSOP40A; Publisher: Altium Limited; Code_JEDEC: MO-142-CD
footprint TSOP40A (Shrink Small Outline, Plastic, Thin; 40 Leads; Body Width 18.4 mm; Pitch 0.5 mm)
pins: 1 A9 (in), 2 A10 (in), 3 A11 (in), 4 A12 (in), 5 A13 (in), 6 A14 (in), 7 A15 (in), 8 A16 (in), 9 A17 (in), 10 VCC (power), 11 VPP (power), 12 ~{CE} (in), 13 Q15 (io), 14 Q14 (io), 15 Q13 (io), 16 Q12 (io), 17 Q11 (io), 18 Q10 (io), 19 Q9 (io), 20 Q8 (io), 21 GND (power), 22 Q7 (io), 23 Q6 (io), 24 Q5 (io), 25 Q4 (io), 26 Q3 (io), 27 Q2 (io), 28 Q1 (io), 29 Q0 (io), 30 ~{OE} (in), 31 A0 (in), 32 A1 (in), 33 A2 (in), 34 A3 (in), 35 A4 (in), 36 A5 (in), 37 A6 (in), 38 A7 (in), 39 A8 (in), 40 GND (power)

## M27C4002-10XC1
designator U?
4 Mbit (256Kb x 16) UV EPROM and OTP EPROM; Published: 24-Aug-2001; LatestRevisionDate: 17-Jul-2002; LatestRevisionNote: Re-released for DXP Platform.; DatasheetDocument: Sep-1998; PackageDocument: Jun-1998; PackageReference: PLCC44; Publisher: Altium Limited; Code_IPC: PLCC-44
footprint PLCC44 (Leaded Chip Carrier; 44 Leads; Body 16.5 x 16.5 mm)
pins: 1 NC, 2 VPP (power), 3 ~{CE} (in), 4 Q15 (io), 5 Q14 (io), 6 Q13 (io), 7 Q12 (io), 8 Q11 (io), 9 Q10 (io), 10 Q9 (io), 11 Q8 (io), 12 GND (power), 13 NC, 14 Q7 (io), 15 Q6 (io), 16 Q5 (io), 17 Q4 (io), 18 Q3 (io), 19 Q2 (io), 20 Q1 (io), 21 Q0 (io), 22 ~{OE} (in), 23 NC, 24 A0 (in), 25 A1 (in), 26 A2 (in), 27 A3 (in), 28 A4 (in), 29 A5 (in), 30 A6 (in), 31 A7 (in), 32 A8 (in), 33 NC, 34 GND (power), 35 A9 (in), 36 A10 (in), 37 A11 (in), 38 A12 (in), 39 A13 (in), 40 A14 (in), 41 A15 (in), 42 A16 (in), 43 A17 (in), 44 VCC (power)

## M27C4002-10XC6
designator U?
4 Mbit (256Kb x 16) UV EPROM and OTP EPROM; Published: 24-Aug-2001; LatestRevisionDate: 17-Jul-2002; LatestRevisionNote: Re-released for DXP Platform.; DatasheetDocument: Sep-1998; PackageDocument: Jun-1998; PackageReference: PLCC44; Publisher: Altium Limited; Code_IPC: PLCC-44
footprint PLCC44 (Leaded Chip Carrier; 44 Leads; Body 16.5 x 16.5 mm)
pins: 1 NC, 2 VPP (power), 3 ~{CE} (in), 4 Q15 (io), 5 Q14 (io), 6 Q13 (io), 7 Q12 (io), 8 Q11 (io), 9 Q10 (io), 10 Q9 (io), 11 Q8 (io), 12 GND (power), 13 NC, 14 Q7 (io), 15 Q6 (io), 16 Q5 (io), 17 Q4 (io), 18 Q3 (io), 19 Q2 (io), 20 Q1 (io), 21 Q0 (io), 22 ~{OE} (in), 23 NC, 24 A0 (in), 25 A1 (in), 26 A2 (in), 27 A3 (in), 28 A4 (in), 29 A5 (in), 30 A6 (in), 31 A7 (in), 32 A8 (in), 33 NC, 34 GND (power), 35 A9 (in), 36 A10 (in), 37 A11 (in), 38 A12 (in), 39 A13 (in), 40 A14 (in), 41 A15 (in), 42 A16 (in), 43 A17 (in), 44 VCC (power)

## M27C4002-10XF1
designator U?
4 Mbit (256Kb x 16) UV EPROM and OTP EPROM; Published: 24-Aug-2001; LatestRevisionDate: 17-Jul-2002; LatestRevisionNote: Re-released for DXP Platform.; DatasheetDocument: Sep-1998; PackageReference: FDIP40W; Publisher: Altium Limited
footprint FDIP40W (Ceramic Frit-seal DIP, Window; 40 Leads; Row Spacing 15.24 mm; Pitch 2.54 mm)
pins: 1 VPP (power), 2 ~{CE} (in), 3 Q15 (io), 4 Q14 (io), 5 Q13 (io), 6 Q12 (io), 7 Q11 (io), 8 Q10 (io), 9 Q9 (io), 10 Q8 (io), 11 GND (power), 12 Q7 (io), 13 Q6 (io), 14 Q5 (io), 15 Q4 (io), 16 Q3 (io), 17 Q2 (io), 18 Q1 (io), 19 Q0 (io), 20 ~{OE} (in), 21 A0 (in), 22 A1 (in), 23 A2 (in), 24 A3 (in), 25 A4 (in), 26 A5 (in), 27 A6 (in), 28 A7 (in), 29 A8 (in), 30 GND (power), 31 A9 (in), 32 A10 (in), 33 A11 (in), 34 A12 (in), 35 A13 (in), 36 A14 (in), 37 A15 (in), 38 A16 (in), 39 A17 (in), 40 VCC (power)

## M27C4002-10XF6
designator U?
4 Mbit (256Kb x 16) UV EPROM and OTP EPROM; Published: 24-Aug-2001; LatestRevisionDate: 17-Jul-2002; LatestRevisionNote: Re-released for DXP Platform.; DatasheetDocument: Sep-1998; PackageReference: FDIP40W; Publisher: Altium Limited
footprint FDIP40W (Ceramic Frit-seal DIP, Window; 40 Leads; Row Spacing 15.24 mm; Pitch 2.54 mm)
pins: 1 VPP (power), 2 ~{CE} (in), 3 Q15 (io), 4 Q14 (io), 5 Q13 (io), 6 Q12 (io), 7 Q11 (io), 8 Q10 (io), 9 Q9 (io), 10 Q8 (io), 11 GND (power), 12 Q7 (io), 13 Q6 (io), 14 Q5 (io), 15 Q4 (io), 16 Q3 (io), 17 Q2 (io), 18 Q1 (io), 19 Q0 (io), 20 ~{OE} (in), 21 A0 (in), 22 A1 (in), 23 A2 (in), 24 A3 (in), 25 A4 (in), 26 A5 (in), 27 A6 (in), 28 A7 (in), 29 A8 (in), 30 GND (power), 31 A9 (in), 32 A10 (in), 33 A11 (in), 34 A12 (in), 35 A13 (in), 36 A14 (in), 37 A15 (in), 38 A16 (in), 39 A17 (in), 40 VCC (power)

## M27C4002-10XJ1
designator U?
4 Mbit (256Kb x 16) UV EPROM and OTP EPROM; Published: 24-Aug-2001; LatestRevisionDate: 17-Jul-2002; LatestRevisionNote: Re-released for DXP Platform.; DatasheetDocument: Sep-1998; PackageReference: JLCC44W; Publisher: Altium Limited; Code_IPC: PLCC-44
footprint JLCC44W (Leaded Chip Carrier; 44 Leads; Body 16.5 x 16.5 mm)
pins: 1 NC, 2 VPP (power), 3 ~{CE} (in), 4 Q15 (io), 5 Q14 (io), 6 Q13 (io), 7 Q12 (io), 8 Q11 (io), 9 Q10 (io), 10 Q9 (io), 11 Q8 (io), 12 GND (power), 13 NC, 14 Q7 (io), 15 Q6 (io), 16 Q5 (io), 17 Q4 (io), 18 Q3 (io), 19 Q2 (io), 20 Q1 (io), 21 Q0 (io), 22 ~{OE} (in), 23 NC, 24 A0 (in), 25 A1 (in), 26 A2 (in), 27 A3 (in), 28 A4 (in), 29 A5 (in), 30 A6 (in), 31 A7 (in), 32 A8 (in), 33 NC, 34 GND (power), 35 A9 (in), 36 A10 (in), 37 A11 (in), 38 A12 (in), 39 A13 (in), 40 A14 (in), 41 A15 (in), 42 A16 (in), 43 A17 (in), 44 VCC (power)

## M27C4002-10XJ6
designator U?
4 Mbit (256Kb x 16) UV EPROM and OTP EPROM; Published: 24-Aug-2001; LatestRevisionDate: 17-Jul-2002; LatestRevisionNote: Re-released for DXP Platform.; DatasheetDocument: Sep-1998; PackageReference: JLCC44W; Publisher: Altium Limited; Code_IPC: PLCC-44
footprint JLCC44W (Leaded Chip Carrier; 44 Leads; Body 16.5 x 16.5 mm)
pins: 1 NC, 2 VPP (power), 3 ~{CE} (in), 4 Q15 (io), 5 Q14 (io), 6 Q13 (io), 7 Q12 (io), 8 Q11 (io), 9 Q10 (io), 10 Q9 (io), 11 Q8 (io), 12 GND (power), 13 NC, 14 Q7 (io), 15 Q6 (io), 16 Q5 (io), 17 Q4 (io), 18 Q3 (io), 19 Q2 (io), 20 Q1 (io), 21 Q0 (io), 22 ~{OE} (in), 23 NC, 24 A0 (in), 25 A1 (in), 26 A2 (in), 27 A3 (in), 28 A4 (in), 29 A5 (in), 30 A6 (in), 31 A7 (in), 32 A8 (in), 33 NC, 34 GND (power), 35 A9 (in), 36 A10 (in), 37 A11 (in), 38 A12 (in), 39 A13 (in), 40 A14 (in), 41 A15 (in), 42 A16 (in), 43 A17 (in), 44 VCC (power)

## M27C4002-10XN1
designator U?
4 Mbit (256Kb x 16) UV EPROM and OTP EPROM; Published: 24-Aug-2001; LatestRevisionDate: 17-Jul-2002; LatestRevisionNote: Re-released for DXP Platform.; DatasheetDocument: Sep-1998; PackageDocument: Jul-1998; PackageReference: TSOP40A; Publisher: Altium Limited; Code_JEDEC: MO-142-CD
footprint TSOP40A (Shrink Small Outline, Plastic, Thin; 40 Leads; Body Width 18.4 mm; Pitch 0.5 mm)
pins: 1 A9 (in), 2 A10 (in), 3 A11 (in), 4 A12 (in), 5 A13 (in), 6 A14 (in), 7 A15 (in), 8 A16 (in), 9 A17 (in), 10 VCC (power), 11 VPP (power), 12 ~{CE} (in), 13 Q15 (io), 14 Q14 (io), 15 Q13 (io), 16 Q12 (io), 17 Q11 (io), 18 Q10 (io), 19 Q9 (io), 20 Q8 (io), 21 GND (power), 22 Q7 (io), 23 Q6 (io), 24 Q5 (io), 25 Q4 (io), 26 Q3 (io), 27 Q2 (io), 28 Q1 (io), 29 Q0 (io), 30 ~{OE} (in), 31 A0 (in), 32 A1 (in), 33 A2 (in), 34 A3 (in), 35 A4 (in), 36 A5 (in), 37 A6 (in), 38 A7 (in), 39 A8 (in), 40 GND (power)

## M27C4002-10XN6
designator U?
4 Mbit (256Kb x 16) UV EPROM and OTP EPROM; Published: 24-Aug-2001; LatestRevisionDate: 17-Jul-2002; LatestRevisionNote: Re-released for DXP Platform.; DatasheetDocument: Sep-1998; PackageDocument: Jul-1998; PackageReference: TSOP40A; Publisher: Altium Limited; Code_JEDEC: MO-142-CD
footprint TSOP40A (Shrink Small Outline, Plastic, Thin; 40 Leads; Body Width 18.4 mm; Pitch 0.5 mm)
pins: 1 A9 (in), 2 A10 (in), 3 A11 (in), 4 A12 (in), 5 A13 (in), 6 A14 (in), 7 A15 (in), 8 A16 (in), 9 A17 (in), 10 VCC (power), 11 VPP (power), 12 ~{CE} (in), 13 Q15 (io), 14 Q14 (io), 15 Q13 (io), 16 Q12 (io), 17 Q11 (io), 18 Q10 (io), 19 Q9 (io), 20 Q8 (io), 21 GND (power), 22 Q7 (io), 23 Q6 (io), 24 Q5 (io), 25 Q4 (io), 26 Q3 (io), 27 Q2 (io), 28 Q1 (io), 29 Q0 (io), 30 ~{OE} (in), 31 A0 (in), 32 A1 (in), 33 A2 (in), 34 A3 (in), 35 A4 (in), 36 A5 (in), 37 A6 (in), 38 A7 (in), 39 A8 (in), 40 GND (power)

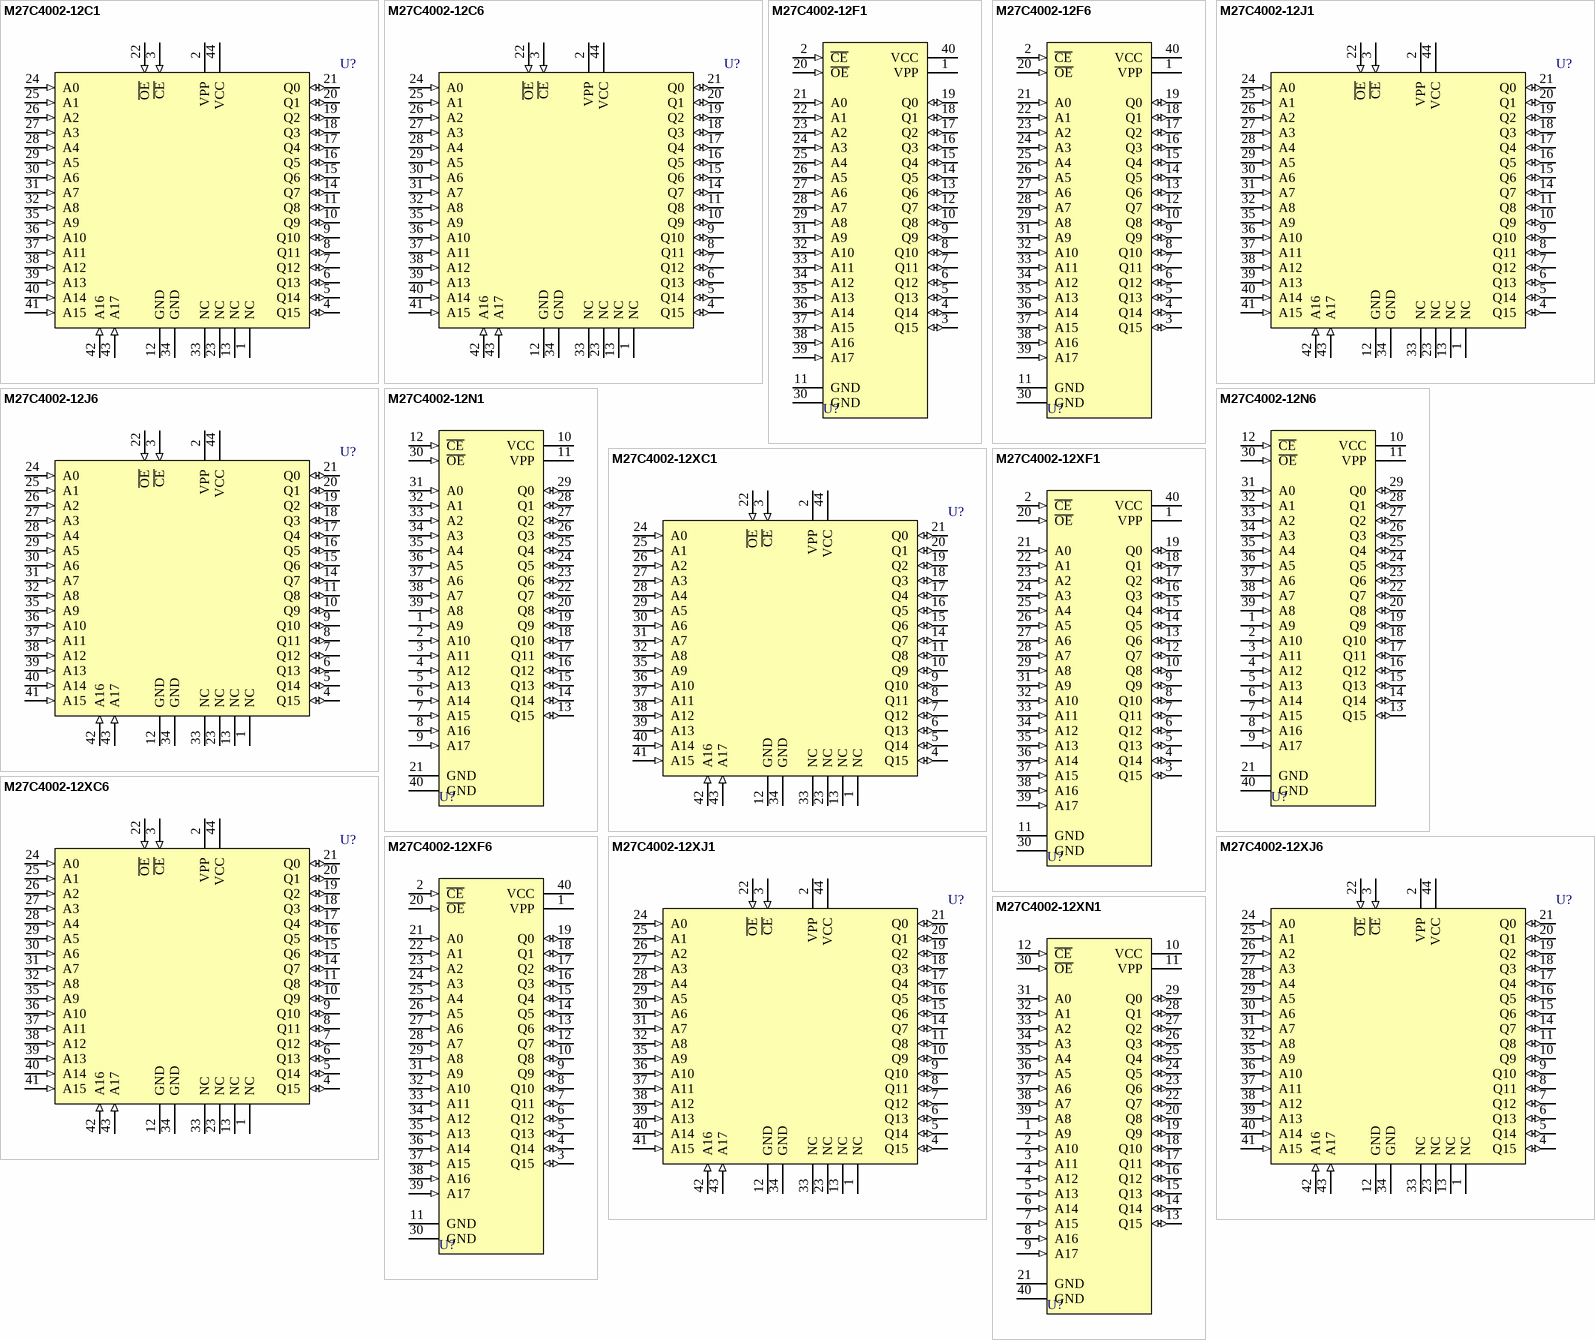
[diagram p42: symbols M27C4002-12C1 to M27C4002-12XN1]

## M27C4002-12C1
designator U?
4 Mbit (256Kb x 16) UV EPROM and OTP EPROM; Published: 24-Aug-2001; LatestRevisionDate: 17-Jul-2002; LatestRevisionNote: Re-released for DXP Platform.; DatasheetDocument: Sep-1998; PackageDocument: Jun-1998; PackageReference: PLCC44; Publisher: Altium Limited; Code_IPC: PLCC-44
footprint PLCC44 (Leaded Chip Carrier; 44 Leads; Body 16.5 x 16.5 mm)
pins: 1 NC, 2 VPP (power), 3 ~{CE} (in), 4 Q15 (io), 5 Q14 (io), 6 Q13 (io), 7 Q12 (io), 8 Q11 (io), 9 Q10 (io), 10 Q9 (io), 11 Q8 (io), 12 GND (power), 13 NC, 14 Q7 (io), 15 Q6 (io), 16 Q5 (io), 17 Q4 (io), 18 Q3 (io), 19 Q2 (io), 20 Q1 (io), 21 Q0 (io), 22 ~{OE} (in), 23 NC, 24 A0 (in), 25 A1 (in), 26 A2 (in), 27 A3 (in), 28 A4 (in), 29 A5 (in), 30 A6 (in), 31 A7 (in), 32 A8 (in), 33 NC, 34 GND (power), 35 A9 (in), 36 A10 (in), 37 A11 (in), 38 A12 (in), 39 A13 (in), 40 A14 (in), 41 A15 (in), 42 A16 (in), 43 A17 (in), 44 VCC (power)

## M27C4002-12C6
designator U?
4 Mbit (256Kb x 16) UV EPROM and OTP EPROM; Published: 24-Aug-2001; LatestRevisionDate: 17-Jul-2002; LatestRevisionNote: Re-released for DXP Platform.; DatasheetDocument: Sep-1998; PackageDocument: Jun-1998; PackageReference: PLCC44; Publisher: Altium Limited; Code_IPC: PLCC-44
footprint PLCC44 (Leaded Chip Carrier; 44 Leads; Body 16.5 x 16.5 mm)
pins: 1 NC, 2 VPP (power), 3 ~{CE} (in), 4 Q15 (io), 5 Q14 (io), 6 Q13 (io), 7 Q12 (io), 8 Q11 (io), 9 Q10 (io), 10 Q9 (io), 11 Q8 (io), 12 GND (power), 13 NC, 14 Q7 (io), 15 Q6 (io), 16 Q5 (io), 17 Q4 (io), 18 Q3 (io), 19 Q2 (io), 20 Q1 (io), 21 Q0 (io), 22 ~{OE} (in), 23 NC, 24 A0 (in), 25 A1 (in), 26 A2 (in), 27 A3 (in), 28 A4 (in), 29 A5 (in), 30 A6 (in), 31 A7 (in), 32 A8 (in), 33 NC, 34 GND (power), 35 A9 (in), 36 A10 (in), 37 A11 (in), 38 A12 (in), 39 A13 (in), 40 A14 (in), 41 A15 (in), 42 A16 (in), 43 A17 (in), 44 VCC (power)

## M27C4002-12F1
designator U?
4 Mbit (256Kb x 16) UV EPROM and OTP EPROM; Published: 24-Aug-2001; LatestRevisionDate: 17-Jul-2002; LatestRevisionNote: Re-released for DXP Platform.; DatasheetDocument: Sep-1998; PackageReference: FDIP40W; Publisher: Altium Limited
footprint FDIP40W (Ceramic Frit-seal DIP, Window; 40 Leads; Row Spacing 15.24 mm; Pitch 2.54 mm)
pins: 1 VPP (power), 2 ~{CE} (in), 3 Q15 (io), 4 Q14 (io), 5 Q13 (io), 6 Q12 (io), 7 Q11 (io), 8 Q10 (io), 9 Q9 (io), 10 Q8 (io), 11 GND (power), 12 Q7 (io), 13 Q6 (io), 14 Q5 (io), 15 Q4 (io), 16 Q3 (io), 17 Q2 (io), 18 Q1 (io), 19 Q0 (io), 20 ~{OE} (in), 21 A0 (in), 22 A1 (in), 23 A2 (in), 24 A3 (in), 25 A4 (in), 26 A5 (in), 27 A6 (in), 28 A7 (in), 29 A8 (in), 30 GND (power), 31 A9 (in), 32 A10 (in), 33 A11 (in), 34 A12 (in), 35 A13 (in), 36 A14 (in), 37 A15 (in), 38 A16 (in), 39 A17 (in), 40 VCC (power)

## M27C4002-12F6
designator U?
4 Mbit (256Kb x 16) UV EPROM and OTP EPROM; Published: 24-Aug-2001; LatestRevisionDate: 17-Jul-2002; LatestRevisionNote: Re-released for DXP Platform.; DatasheetDocument: Sep-1998; PackageReference: FDIP40W; Publisher: Altium Limited
footprint FDIP40W (Ceramic Frit-seal DIP, Window; 40 Leads; Row Spacing 15.24 mm; Pitch 2.54 mm)
pins: 1 VPP (power), 2 ~{CE} (in), 3 Q15 (io), 4 Q14 (io), 5 Q13 (io), 6 Q12 (io), 7 Q11 (io), 8 Q10 (io), 9 Q9 (io), 10 Q8 (io), 11 GND (power), 12 Q7 (io), 13 Q6 (io), 14 Q5 (io), 15 Q4 (io), 16 Q3 (io), 17 Q2 (io), 18 Q1 (io), 19 Q0 (io), 20 ~{OE} (in), 21 A0 (in), 22 A1 (in), 23 A2 (in), 24 A3 (in), 25 A4 (in), 26 A5 (in), 27 A6 (in), 28 A7 (in), 29 A8 (in), 30 GND (power), 31 A9 (in), 32 A10 (in), 33 A11 (in), 34 A12 (in), 35 A13 (in), 36 A14 (in), 37 A15 (in), 38 A16 (in), 39 A17 (in), 40 VCC (power)

## M27C4002-12J1
designator U?
4 Mbit (256Kb x 16) UV EPROM and OTP EPROM; Published: 24-Aug-2001; LatestRevisionDate: 17-Jul-2002; LatestRevisionNote: Re-released for DXP Platform.; DatasheetDocument: Sep-1998; PackageReference: JLCC44W; Publisher: Altium Limited; Code_IPC: PLCC-44
footprint JLCC44W (Leaded Chip Carrier; 44 Leads; Body 16.5 x 16.5 mm)
pins: 1 NC, 2 VPP (power), 3 ~{CE} (in), 4 Q15 (io), 5 Q14 (io), 6 Q13 (io), 7 Q12 (io), 8 Q11 (io), 9 Q10 (io), 10 Q9 (io), 11 Q8 (io), 12 GND (power), 13 NC, 14 Q7 (io), 15 Q6 (io), 16 Q5 (io), 17 Q4 (io), 18 Q3 (io), 19 Q2 (io), 20 Q1 (io), 21 Q0 (io), 22 ~{OE} (in), 23 NC, 24 A0 (in), 25 A1 (in), 26 A2 (in), 27 A3 (in), 28 A4 (in), 29 A5 (in), 30 A6 (in), 31 A7 (in), 32 A8 (in), 33 NC, 34 GND (power), 35 A9 (in), 36 A10 (in), 37 A11 (in), 38 A12 (in), 39 A13 (in), 40 A14 (in), 41 A15 (in), 42 A16 (in), 43 A17 (in), 44 VCC (power)

## M27C4002-12J6
designator U?
4 Mbit (256Kb x 16) UV EPROM and OTP EPROM; Published: 24-Aug-2001; LatestRevisionDate: 17-Jul-2002; LatestRevisionNote: Re-released for DXP Platform.; DatasheetDocument: Sep-1998; PackageReference: JLCC44W; Publisher: Altium Limited; Code_IPC: PLCC-44
footprint JLCC44W (Leaded Chip Carrier; 44 Leads; Body 16.5 x 16.5 mm)
pins: 1 NC, 2 VPP (power), 3 ~{CE} (in), 4 Q15 (io), 5 Q14 (io), 6 Q13 (io), 7 Q12 (io), 8 Q11 (io), 9 Q10 (io), 10 Q9 (io), 11 Q8 (io), 12 GND (power), 13 NC, 14 Q7 (io), 15 Q6 (io), 16 Q5 (io), 17 Q4 (io), 18 Q3 (io), 19 Q2 (io), 20 Q1 (io), 21 Q0 (io), 22 ~{OE} (in), 23 NC, 24 A0 (in), 25 A1 (in), 26 A2 (in), 27 A3 (in), 28 A4 (in), 29 A5 (in), 30 A6 (in), 31 A7 (in), 32 A8 (in), 33 NC, 34 GND (power), 35 A9 (in), 36 A10 (in), 37 A11 (in), 38 A12 (in), 39 A13 (in), 40 A14 (in), 41 A15 (in), 42 A16 (in), 43 A17 (in), 44 VCC (power)

## M27C4002-12N1
designator U?
4 Mbit (256Kb x 16) UV EPROM and OTP EPROM; Published: 24-Aug-2001; LatestRevisionDate: 17-Jul-2002; LatestRevisionNote: Re-released for DXP Platform.; DatasheetDocument: Sep-1998; PackageDocument: Jul-1998; PackageReference: TSOP40A; Publisher: Altium Limited; Code_JEDEC: MO-142-CD
footprint TSOP40A (Shrink Small Outline, Plastic, Thin; 40 Leads; Body Width 18.4 mm; Pitch 0.5 mm)
pins: 1 A9 (in), 2 A10 (in), 3 A11 (in), 4 A12 (in), 5 A13 (in), 6 A14 (in), 7 A15 (in), 8 A16 (in), 9 A17 (in), 10 VCC (power), 11 VPP (power), 12 ~{CE} (in), 13 Q15 (io), 14 Q14 (io), 15 Q13 (io), 16 Q12 (io), 17 Q11 (io), 18 Q10 (io), 19 Q9 (io), 20 Q8 (io), 21 GND (power), 22 Q7 (io), 23 Q6 (io), 24 Q5 (io), 25 Q4 (io), 26 Q3 (io), 27 Q2 (io), 28 Q1 (io), 29 Q0 (io), 30 ~{OE} (in), 31 A0 (in), 32 A1 (in), 33 A2 (in), 34 A3 (in), 35 A4 (in), 36 A5 (in), 37 A6 (in), 38 A7 (in), 39 A8 (in), 40 GND (power)

## M27C4002-12N6
designator U?
4 Mbit (256Kb x 16) UV EPROM and OTP EPROM; Published: 24-Aug-2001; LatestRevisionDate: 17-Jul-2002; LatestRevisionNote: Re-released for DXP Platform.; DatasheetDocument: Sep-1998; PackageDocument: Jul-1998; PackageReference: TSOP40A; Publisher: Altium Limited; Code_JEDEC: MO-142-CD
footprint TSOP40A (Shrink Small Outline, Plastic, Thin; 40 Leads; Body Width 18.4 mm; Pitch 0.5 mm)
pins: 1 A9 (in), 2 A10 (in), 3 A11 (in), 4 A12 (in), 5 A13 (in), 6 A14 (in), 7 A15 (in), 8 A16 (in), 9 A17 (in), 10 VCC (power), 11 VPP (power), 12 ~{CE} (in), 13 Q15 (io), 14 Q14 (io), 15 Q13 (io), 16 Q12 (io), 17 Q11 (io), 18 Q10 (io), 19 Q9 (io), 20 Q8 (io), 21 GND (power), 22 Q7 (io), 23 Q6 (io), 24 Q5 (io), 25 Q4 (io), 26 Q3 (io), 27 Q2 (io), 28 Q1 (io), 29 Q0 (io), 30 ~{OE} (in), 31 A0 (in), 32 A1 (in), 33 A2 (in), 34 A3 (in), 35 A4 (in), 36 A5 (in), 37 A6 (in), 38 A7 (in), 39 A8 (in), 40 GND (power)

## M27C4002-12XC1
designator U?
4 Mbit (256Kb x 16) UV EPROM and OTP EPROM; Published: 24-Aug-2001; LatestRevisionDate: 17-Jul-2002; LatestRevisionNote: Re-released for DXP Platform.; DatasheetDocument: Sep-1998; PackageDocument: Jun-1998; PackageReference: PLCC44; Publisher: Altium Limited; Code_IPC: PLCC-44
footprint PLCC44 (Leaded Chip Carrier; 44 Leads; Body 16.5 x 16.5 mm)
pins: 1 NC, 2 VPP (power), 3 ~{CE} (in), 4 Q15 (io), 5 Q14 (io), 6 Q13 (io), 7 Q12 (io), 8 Q11 (io), 9 Q10 (io), 10 Q9 (io), 11 Q8 (io), 12 GND (power), 13 NC, 14 Q7 (io), 15 Q6 (io), 16 Q5 (io), 17 Q4 (io), 18 Q3 (io), 19 Q2 (io), 20 Q1 (io), 21 Q0 (io), 22 ~{OE} (in), 23 NC, 24 A0 (in), 25 A1 (in), 26 A2 (in), 27 A3 (in), 28 A4 (in), 29 A5 (in), 30 A6 (in), 31 A7 (in), 32 A8 (in), 33 NC, 34 GND (power), 35 A9 (in), 36 A10 (in), 37 A11 (in), 38 A12 (in), 39 A13 (in), 40 A14 (in), 41 A15 (in), 42 A16 (in), 43 A17 (in), 44 VCC (power)

## M27C4002-12XC6
designator U?
4 Mbit (256Kb x 16) UV EPROM and OTP EPROM; Published: 24-Aug-2001; LatestRevisionDate: 17-Jul-2002; LatestRevisionNote: Re-released for DXP Platform.; DatasheetDocument: Sep-1998; PackageDocument: Jun-1998; PackageReference: PLCC44; Publisher: Altium Limited; Code_IPC: PLCC-44
footprint PLCC44 (Leaded Chip Carrier; 44 Leads; Body 16.5 x 16.5 mm)
pins: 1 NC, 2 VPP (power), 3 ~{CE} (in), 4 Q15 (io), 5 Q14 (io), 6 Q13 (io), 7 Q12 (io), 8 Q11 (io), 9 Q10 (io), 10 Q9 (io), 11 Q8 (io), 12 GND (power), 13 NC, 14 Q7 (io), 15 Q6 (io), 16 Q5 (io), 17 Q4 (io), 18 Q3 (io), 19 Q2 (io), 20 Q1 (io), 21 Q0 (io), 22 ~{OE} (in), 23 NC, 24 A0 (in), 25 A1 (in), 26 A2 (in), 27 A3 (in), 28 A4 (in), 29 A5 (in), 30 A6 (in), 31 A7 (in), 32 A8 (in), 33 NC, 34 GND (power), 35 A9 (in), 36 A10 (in), 37 A11 (in), 38 A12 (in), 39 A13 (in), 40 A14 (in), 41 A15 (in), 42 A16 (in), 43 A17 (in), 44 VCC (power)

## M27C4002-12XF1
designator U?
4 Mbit (256Kb x 16) UV EPROM and OTP EPROM; Published: 24-Aug-2001; LatestRevisionDate: 17-Jul-2002; LatestRevisionNote: Re-released for DXP Platform.; DatasheetDocument: Sep-1998; PackageReference: FDIP40W; Publisher: Altium Limited
footprint FDIP40W (Ceramic Frit-seal DIP, Window; 40 Leads; Row Spacing 15.24 mm; Pitch 2.54 mm)
pins: 1 VPP (power), 2 ~{CE} (in), 3 Q15 (io), 4 Q14 (io), 5 Q13 (io), 6 Q12 (io), 7 Q11 (io), 8 Q10 (io), 9 Q9 (io), 10 Q8 (io), 11 GND (power), 12 Q7 (io), 13 Q6 (io), 14 Q5 (io), 15 Q4 (io), 16 Q3 (io), 17 Q2 (io), 18 Q1 (io), 19 Q0 (io), 20 ~{OE} (in), 21 A0 (in), 22 A1 (in), 23 A2 (in), 24 A3 (in), 25 A4 (in), 26 A5 (in), 27 A6 (in), 28 A7 (in), 29 A8 (in), 30 GND (power), 31 A9 (in), 32 A10 (in), 33 A11 (in), 34 A12 (in), 35 A13 (in), 36 A14 (in), 37 A15 (in), 38 A16 (in), 39 A17 (in), 40 VCC (power)

## M27C4002-12XF6
designator U?
4 Mbit (256Kb x 16) UV EPROM and OTP EPROM; Published: 24-Aug-2001; LatestRevisionDate: 17-Jul-2002; LatestRevisionNote: Re-released for DXP Platform.; DatasheetDocument: Sep-1998; PackageReference: FDIP40W; Publisher: Altium Limited
footprint FDIP40W (Ceramic Frit-seal DIP, Window; 40 Leads; Row Spacing 15.24 mm; Pitch 2.54 mm)
pins: 1 VPP (power), 2 ~{CE} (in), 3 Q15 (io), 4 Q14 (io), 5 Q13 (io), 6 Q12 (io), 7 Q11 (io), 8 Q10 (io), 9 Q9 (io), 10 Q8 (io), 11 GND (power), 12 Q7 (io), 13 Q6 (io), 14 Q5 (io), 15 Q4 (io), 16 Q3 (io), 17 Q2 (io), 18 Q1 (io), 19 Q0 (io), 20 ~{OE} (in), 21 A0 (in), 22 A1 (in), 23 A2 (in), 24 A3 (in), 25 A4 (in), 26 A5 (in), 27 A6 (in), 28 A7 (in), 29 A8 (in), 30 GND (power), 31 A9 (in), 32 A10 (in), 33 A11 (in), 34 A12 (in), 35 A13 (in), 36 A14 (in), 37 A15 (in), 38 A16 (in), 39 A17 (in), 40 VCC (power)

## M27C4002-12XJ1
designator U?
4 Mbit (256Kb x 16) UV EPROM and OTP EPROM; Published: 24-Aug-2001; LatestRevisionDate: 17-Jul-2002; LatestRevisionNote: Re-released for DXP Platform.; DatasheetDocument: Sep-1998; PackageReference: JLCC44W; Publisher: Altium Limited; Code_IPC: PLCC-44
footprint JLCC44W (Leaded Chip Carrier; 44 Leads; Body 16.5 x 16.5 mm)
pins: 1 NC, 2 VPP (power), 3 ~{CE} (in), 4 Q15 (io), 5 Q14 (io), 6 Q13 (io), 7 Q12 (io), 8 Q11 (io), 9 Q10 (io), 10 Q9 (io), 11 Q8 (io), 12 GND (power), 13 NC, 14 Q7 (io), 15 Q6 (io), 16 Q5 (io), 17 Q4 (io), 18 Q3 (io), 19 Q2 (io), 20 Q1 (io), 21 Q0 (io), 22 ~{OE} (in), 23 NC, 24 A0 (in), 25 A1 (in), 26 A2 (in), 27 A3 (in), 28 A4 (in), 29 A5 (in), 30 A6 (in), 31 A7 (in), 32 A8 (in), 33 NC, 34 GND (power), 35 A9 (in), 36 A10 (in), 37 A11 (in), 38 A12 (in), 39 A13 (in), 40 A14 (in), 41 A15 (in), 42 A16 (in), 43 A17 (in), 44 VCC (power)

## M27C4002-12XJ6
designator U?
4 Mbit (256Kb x 16) UV EPROM and OTP EPROM; Published: 24-Aug-2001; LatestRevisionDate: 17-Jul-2002; LatestRevisionNote: Re-released for DXP Platform.; DatasheetDocument: Sep-1998; PackageReference: JLCC44W; Publisher: Altium Limited; Code_IPC: PLCC-44
footprint JLCC44W (Leaded Chip Carrier; 44 Leads; Body 16.5 x 16.5 mm)
pins: 1 NC, 2 VPP (power), 3 ~{CE} (in), 4 Q15 (io), 5 Q14 (io), 6 Q13 (io), 7 Q12 (io), 8 Q11 (io), 9 Q10 (io), 10 Q9 (io), 11 Q8 (io), 12 GND (power), 13 NC, 14 Q7 (io), 15 Q6 (io), 16 Q5 (io), 17 Q4 (io), 18 Q3 (io), 19 Q2 (io), 20 Q1 (io), 21 Q0 (io), 22 ~{OE} (in), 23 NC, 24 A0 (in), 25 A1 (in), 26 A2 (in), 27 A3 (in), 28 A4 (in), 29 A5 (in), 30 A6 (in), 31 A7 (in), 32 A8 (in), 33 NC, 34 GND (power), 35 A9 (in), 36 A10 (in), 37 A11 (in), 38 A12 (in), 39 A13 (in), 40 A14 (in), 41 A15 (in), 42 A16 (in), 43 A17 (in), 44 VCC (power)

## M27C4002-12XN1
designator U?
4 Mbit (256Kb x 16) UV EPROM and OTP EPROM; Published: 24-Aug-2001; LatestRevisionDate: 17-Jul-2002; LatestRevisionNote: Re-released for DXP Platform.; DatasheetDocument: Sep-1998; PackageDocument: Jul-1998; PackageReference: TSOP40A; Publisher: Altium Limited; Code_JEDEC: MO-142-CD
footprint TSOP40A (Shrink Small Outline, Plastic, Thin; 40 Leads; Body Width 18.4 mm; Pitch 0.5 mm)
pins: 1 A9 (in), 2 A10 (in), 3 A11 (in), 4 A12 (in), 5 A13 (in), 6 A14 (in), 7 A15 (in), 8 A16 (in), 9 A17 (in), 10 VCC (power), 11 VPP (power), 12 ~{CE} (in), 13 Q15 (io), 14 Q14 (io), 15 Q13 (io), 16 Q12 (io), 17 Q11 (io), 18 Q10 (io), 19 Q9 (io), 20 Q8 (io), 21 GND (power), 22 Q7 (io), 23 Q6 (io), 24 Q5 (io), 25 Q4 (io), 26 Q3 (io), 27 Q2 (io), 28 Q1 (io), 29 Q0 (io), 30 ~{OE} (in), 31 A0 (in), 32 A1 (in), 33 A2 (in), 34 A3 (in), 35 A4 (in), 36 A5 (in), 37 A6 (in), 38 A7 (in), 39 A8 (in), 40 GND (power)

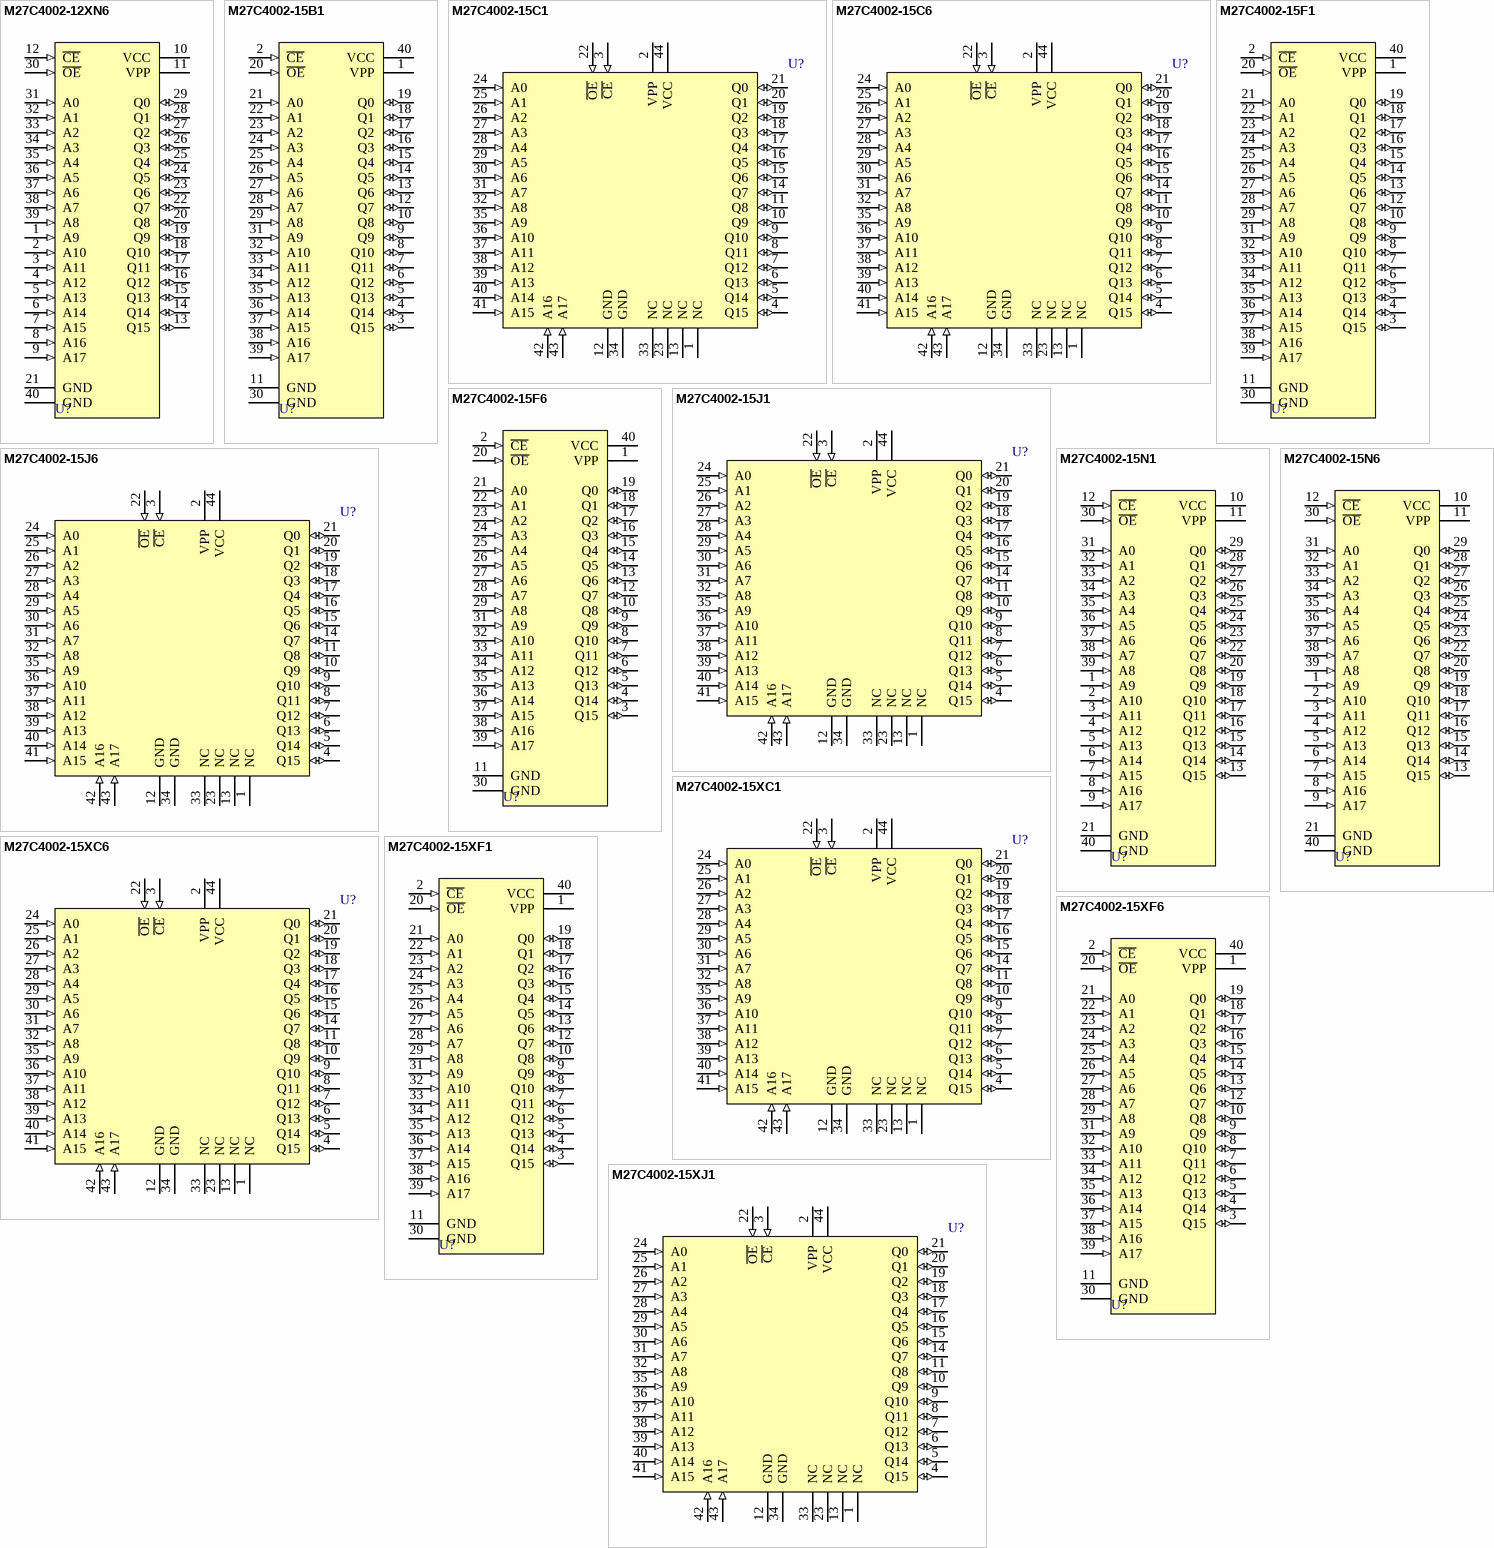
[diagram p43: symbols M27C4002-12XN6 to M27C4002-15XJ1]

## M27C4002-12XN6
designator U?
4 Mbit (256Kb x 16) UV EPROM and OTP EPROM; Published: 24-Aug-2001; LatestRevisionDate: 17-Jul-2002; LatestRevisionNote: Re-released for DXP Platform.; DatasheetDocument: Sep-1998; PackageDocument: Jul-1998; PackageReference: TSOP40A; Publisher: Altium Limited; Code_JEDEC: MO-142-CD
footprint TSOP40A (Shrink Small Outline, Plastic, Thin; 40 Leads; Body Width 18.4 mm; Pitch 0.5 mm)
pins: 1 A9 (in), 2 A10 (in), 3 A11 (in), 4 A12 (in), 5 A13 (in), 6 A14 (in), 7 A15 (in), 8 A16 (in), 9 A17 (in), 10 VCC (power), 11 VPP (power), 12 ~{CE} (in), 13 Q15 (io), 14 Q14 (io), 15 Q13 (io), 16 Q12 (io), 17 Q11 (io), 18 Q10 (io), 19 Q9 (io), 20 Q8 (io), 21 GND (power), 22 Q7 (io), 23 Q6 (io), 24 Q5 (io), 25 Q4 (io), 26 Q3 (io), 27 Q2 (io), 28 Q1 (io), 29 Q0 (io), 30 ~{OE} (in), 31 A0 (in), 32 A1 (in), 33 A2 (in), 34 A3 (in), 35 A4 (in), 36 A5 (in), 37 A6 (in), 38 A7 (in), 39 A8 (in), 40 GND (power)